# Altium integrated library Xilinx Virtex-II.IntLib: 158 symbols (part 2 of 59)
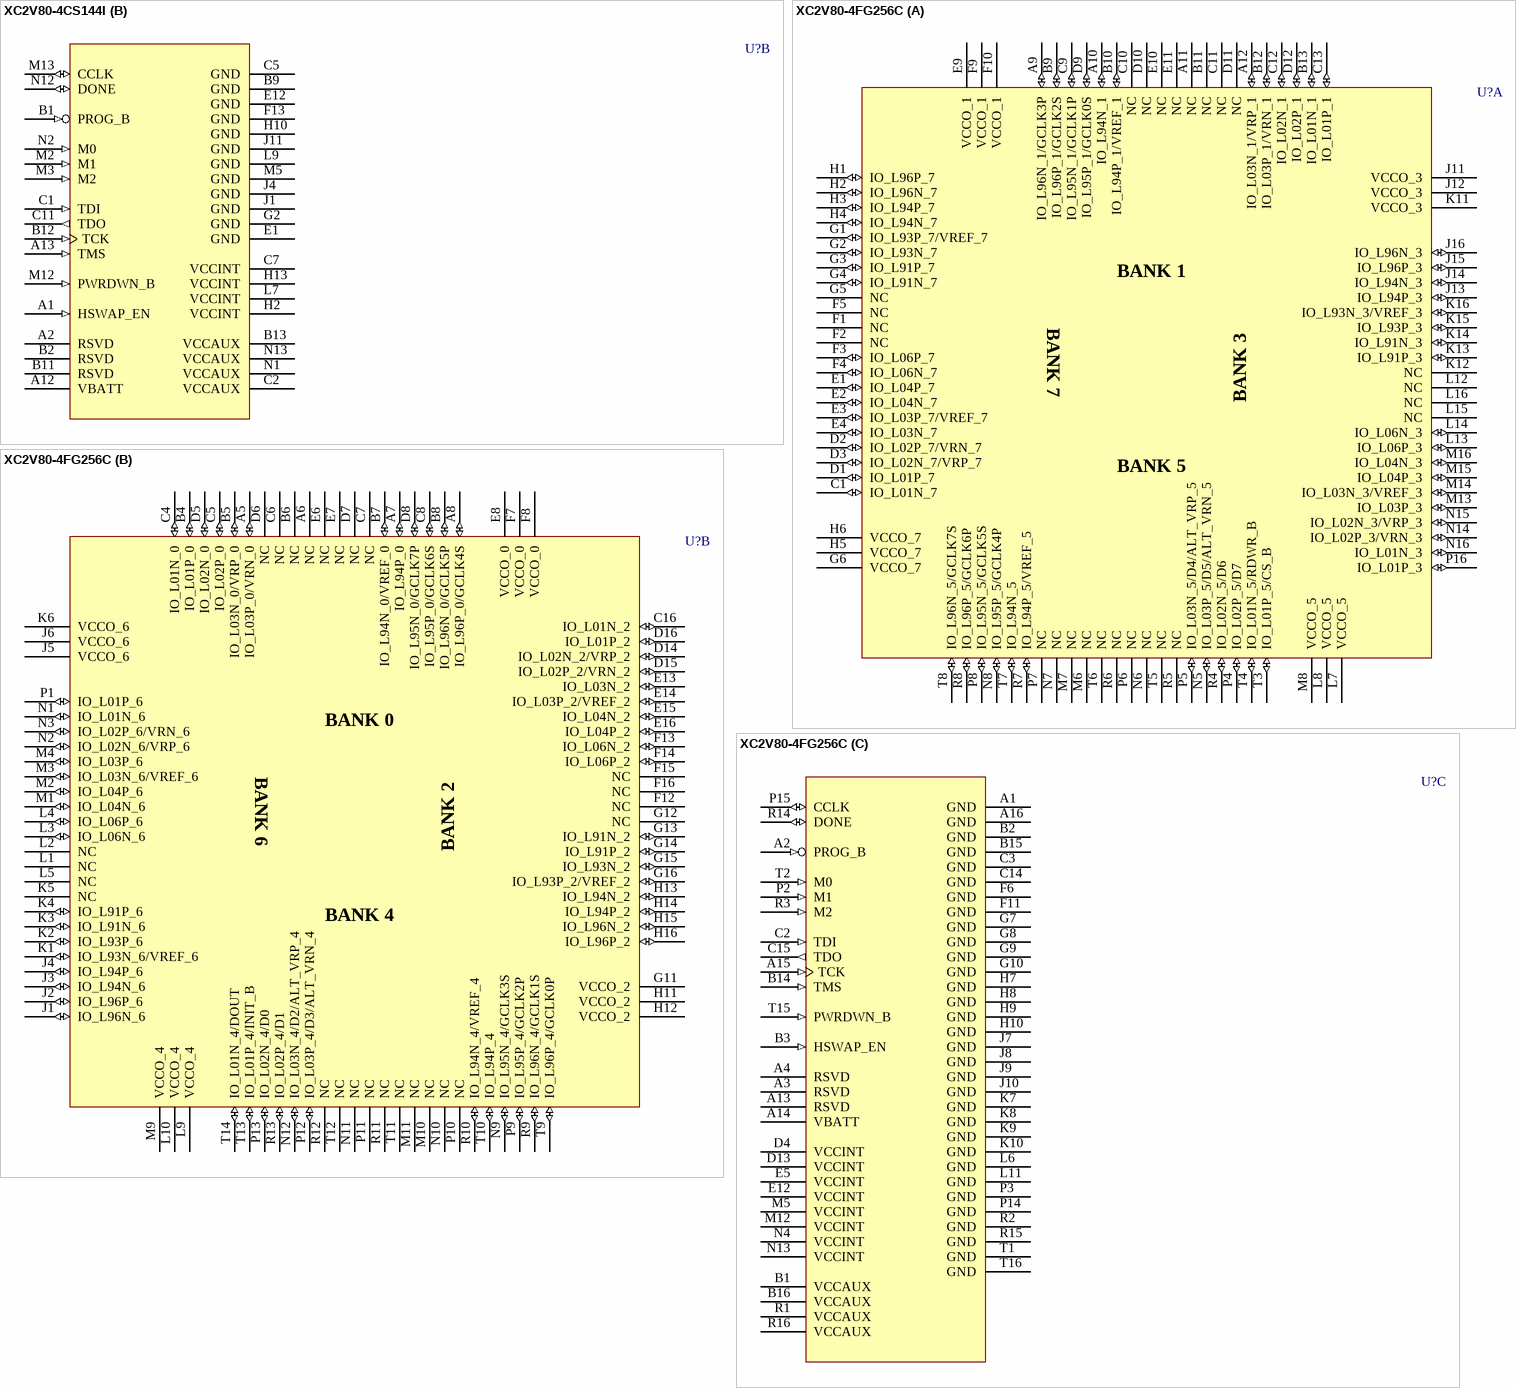
[diagram p400: symbols XC2V80-4CS144I to XC2V80-4FG256C]

## XC2V80-4FG256C
designator U?
Virtex-II 1.5V FPGA, 256-Ball FBGA, Commercial Grade; PackageDocument: ver1.1, Apr-2001; Published: 15-Apr-2002; DatasheetDocument: Mar-2004; PackageReference: FG256; Publisher: Altium Limited; Code_JEDEC: MO-151-AAF-1; Code_IPC: PBGA 17X17 FE256
footprint FG256 (256-Ball Fine Pitch Ball Grid Array (FG256))
3D model XC2V80-FG256 (256-Ball Fine Pitch Ball Grid Array (FG256))
signal-integrity model XC2V80_FG256 (Virtex-II)
part A pins: A9 IO_L96N_1/GCLK3P (io), A10 IO_L94N_1 (io), A11 NC, A12 IO_L03N_1/VRP_1 (io), B9 IO_L96P_1/GCLK2S (io), B10 IO_L94P_1/VREF_1 (io), B11 NC, B12 IO_L03P_1/VRN_1 (io), B13 IO_L01N_1 (io), C1 IO_L01N_7 (io), C9 IO_L95N_1/GCLK1P (io), C10 NC, C11 NC, C12 IO_L02N_1 (io), C13 IO_L01P_1 (io), D1 IO_L01P_7 (io), D2 IO_L02P_7/VRN_7 (io), D3 IO_L02N_7/VRP_7 (io), D9 IO_L95P_1/GCLK0S (io), D10 NC, D11 NC, D12 IO_L02P_1 (io), E1 IO_L04P_7 (io), E2 IO_L04N_7 (io), E3 IO_L03P_7/VREF_7 (io), E4 IO_L03N_7 (io), E9 VCCO_1 (power), E10 NC, E11 NC, F1 NC, F2 NC, F3 IO_L06P_7 (io), F4 IO_L06N_7 (io), F5 NC, F9 VCCO_1 (power), F10 VCCO_1 (power), G1 IO_L93P_7/VREF_7 (io), G2 IO_L93N_7 (io), G3 IO_L91P_7 (io), G4 IO_L91N_7 (io), G5 NC, G6 VCCO_7 (power), H1 IO_L96P_7 (io), H2 IO_L96N_7 (io), H3 IO_L94P_7 (io), H4 IO_L94N_7 (io), H5 VCCO_7 (power), H6 VCCO_7 (power), J11 VCCO_3 (power), J12 VCCO_3 (power), J13 IO_L94P_3 (io), J14 IO_L94N_3 (io), J15 IO_L96P_3 (io), J16 IO_L96N_3 (io), K11 VCCO_3 (power), K12 NC, K13 IO_L91P_3 (io), K14 IO_L91N_3 (io), K15 IO_L93P_3 (io), K16 IO_L93N_3/VREF_3 (io), L7 VCCO_5 (power), L8 VCCO_5 (power), L12 NC, L13 IO_L06P_3 (io), L14 IO_L06N_3 (io), L15 NC, L16 NC, M6 NC, M7 NC, M8 VCCO_5 (power), M13 IO_L03P_3 (io), M14 IO_L03N_3/VREF_3 (io), M15 IO_L04P_3 (io), M16 IO_L04N_3 (io), N5 IO_L03P_5/D5/ALT_VRN_5 (io), N6 NC, N7 NC, N8 IO_L95P_5/GCLK4P (io), N14 IO_L02P_3/VRN_3 (io), N15 IO_L02N_3/VRP_3 (io), N16 IO_L01N_3 (io), P4 IO_L02P_5/D7 (io), P5 IO_L03N_5/D4/ALT_VRP_5 (io), P6 NC, P7 NC, P8 IO_L95N_5/GCLK5S (io), P16 IO_L01P_3 (io), R4 IO_L02N_5/D6 (io), R5 NC, R6 NC, R7 IO_L94P_5/VREF_5 (io), R8 IO_L96P_5/GCLK6P (io), T3 IO_L01P_5/CS_B (io), T4 IO_L01N_5/RDWR_B (io), T5 NC, T6 NC, T7 IO_L94N_5 (io), T8 IO_L96N_5/GCLK7S (io)
part B pins: A5 IO_L03P_0/VRN_0 (io), A6 NC, A7 IO_L94P_0 (io), A8 IO_L96P_0/GCLK4S (io), B4 IO_L01P_0 (io), B5 IO_L03N_0/VRP_0 (io), B6 NC, B7 IO_L94N_0/VREF_0 (io), B8 IO_L96N_0/GCLK5P (io), C4 IO_L01N_0 (io), C5 IO_L02P_0 (io), C6 NC, C7 NC, C8 IO_L95P_0/GCLK6S (io), C16 IO_L01N_2 (io), D5 IO_L02N_0 (io), D6 NC, D7 NC, D8 IO_L95N_0/GCLK7P (io), D14 IO_L02N_2/VRP_2 (io), D15 IO_L02P_2/VRN_2 (io), D16 IO_L01P_2 (io), E6 NC, E7 NC, E8 VCCO_0 (power), E13 IO_L03N_2 (io), E14 IO_L03P_2/VREF_2 (io), E15 IO_L04N_2 (io), E16 IO_L04P_2 (io), F7 VCCO_0 (power), F8 VCCO_0 (power), F12 NC, F13 IO_L06N_2 (io), F14 IO_L06P_2 (io), F15 NC, F16 NC, G11 VCCO_2 (power), G12 NC, G13 IO_L91N_2 (io), G14 IO_L91P_2 (io), G15 IO_L93N_2 (io), G16 IO_L93P_2/VREF_2 (io), H11 VCCO_2 (power), H12 VCCO_2 (power), H13 IO_L94N_2 (io), H14 IO_L94P_2 (io), H15 IO_L96N_2 (io), H16 IO_L96P_2 (io), J1 IO_L96N_6 (io), J2 IO_L96P_6 (io), J3 IO_L94N_6 (io), J4 IO_L94P_6 (io), J5 VCCO_6 (power), J6 VCCO_6 (power), K1 IO_L93N_6/VREF_6 (io), K2 IO_L93P_6 (io), K3 IO_L91N_6 (io), K4 IO_L91P_6 (io), K5 NC, K6 VCCO_6 (power), L1 NC, L2 NC, L3 IO_L06N_6 (io), L4 IO_L06P_6 (io), L5 NC, L9 VCCO_4 (power), L10 VCCO_4 (power), M1 IO_L04N_6 (io), M2 IO_L04P_6 (io), M3 IO_L03N_6/VREF_6 (io), M4 IO_L03P_6 (io), M9 VCCO_4 (power), M10 NC, M11 NC, N1 IO_L01N_6 (io), N2 IO_L02N_6/VRP_6 (io), N3 IO_L02P_6/VRN_6 (io), N9 IO_L95N_4/GCLK3S (io), N10 NC, N11 NC, N12 IO_L03N_4/D2/ALT_VRP_4 (io), P1 IO_L01P_6 (io), P9 IO_L95P_4/GCLK2P (io), P10 NC, P11 NC, P12 IO_L03P_4/D3/ALT_VRN_4 (io), P13 IO_L02N_4/D0 (io), R9 IO_L96N_4/GCLK1S (io), R10 IO_L94N_4/VREF_4 (io), R11 NC, R12 NC, R13 IO_L02P_4/D1 (io), T9 IO_L96P_4/GCLK0P (io), T10 IO_L94P_4 (io), T11 NC, T12 NC, T13 IO_L01P_4/INIT_B (io), T14 IO_L01N_4/DOUT (io)
part C pins: A1 GND (power), A2 PROG_B (in), A3 RSVD, A4 RSVD, A13 RSVD, A14 VBATT (power), A15 TCK (in), A16 GND (power), B1 VCCAUX (power), B2 GND (power), B3 HSWAP_EN (in), B14 TMS (in), B15 GND (power), B16 VCCAUX (power), C2 TDI (in), C3 GND (power), C14 GND (power), C15 TDO (out), D4 VCCINT (power), D13 VCCINT (power), E5 VCCINT (power), E12 VCCINT (power), F6 GND (power), F11 GND (power), G7 GND (power), G8 GND (power), G9 GND (power), G10 GND (power), H7 GND (power), H8 GND (power), H9 GND (power), H10 GND (power), J7 GND (power), J8 GND (power), J9 GND (power), J10 GND (power), K7 GND (power), K8 GND (power), K9 GND (power), K10 GND (power), L6 GND (power), L11 GND (power), M5 VCCINT (power), M12 VCCINT (power), N4 VCCINT (power), N13 VCCINT (power), P2 M1 (in), P3 GND (power), P14 GND (power), P15 CCLK (io), R1 VCCAUX (power), R2 GND (power), R3 M2 (in), R14 DONE (io), R15 GND (power), R16 VCCAUX (power), T1 GND (power), T2 M0 (in), T15 PWRDWN_B (in), T16 GND (power)
part A text: BANK 1; BANK 7; BANK 3; BANK 5
part B text: BANK 0; BANK 6; BANK 2; BANK 4

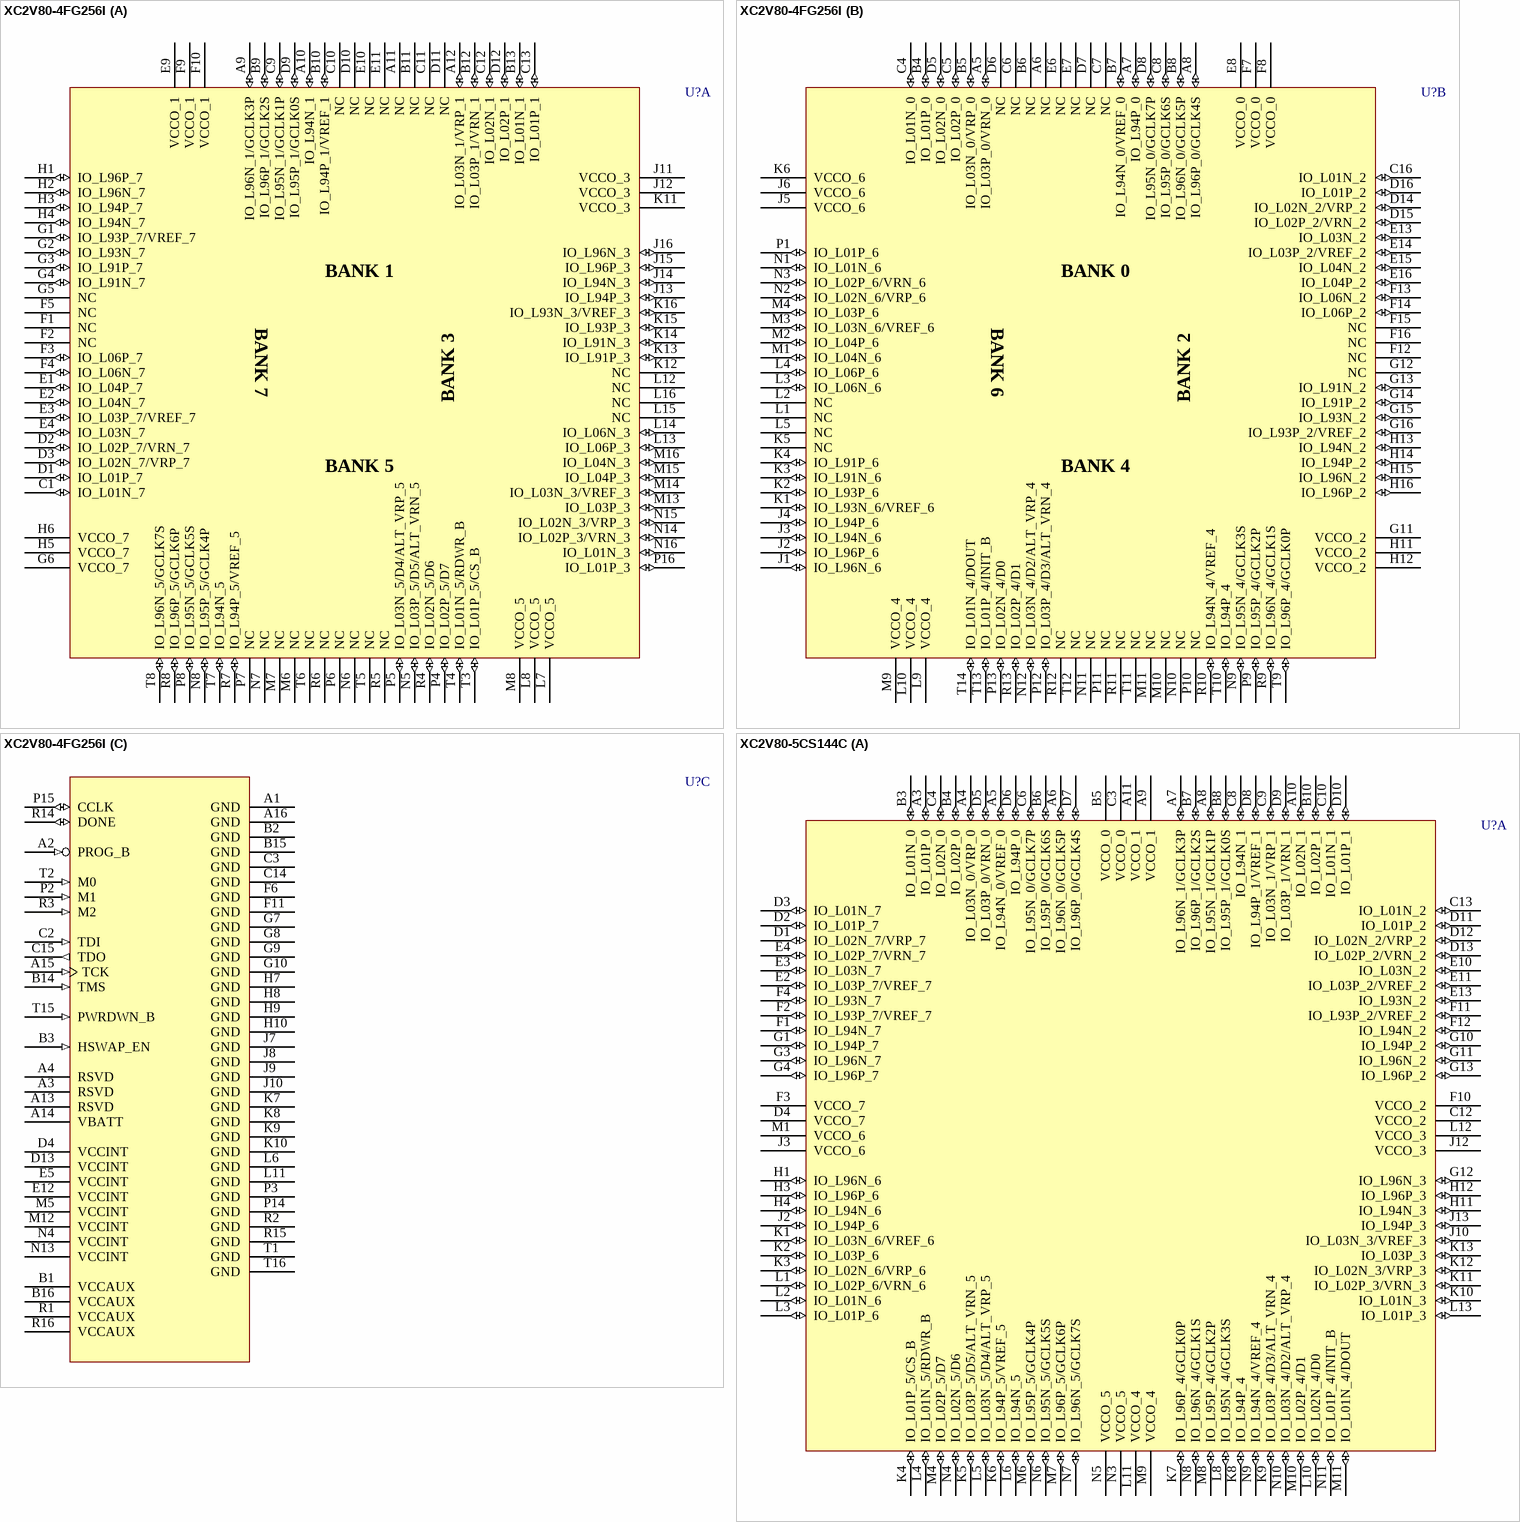
[diagram p8: symbols XC2V80-4FG256I to XC2V80-5CS144C]

## XC2V80-4FG256I
designator U?
Virtex-II 1.5V FPGA, 256-Ball FBGA, Industrial Grade; PackageDocument: ver1.1, Apr-2001; Published: 15-Apr-2002; DatasheetDocument: Mar-2004; PackageReference: FG256; Publisher: Altium Limited; Code_JEDEC: MO-151-AAF-1; Code_IPC: PBGA 17X17 FE256
footprint FG256 (256-Ball Fine Pitch Ball Grid Array (FG256))
3D model XC2V80-FG256 (256-Ball Fine Pitch Ball Grid Array (FG256))
signal-integrity model XC2V80_FG256 (Virtex-II)
part A pins: A9 IO_L96N_1/GCLK3P (io), A10 IO_L94N_1 (io), A11 NC, A12 IO_L03N_1/VRP_1 (io), B9 IO_L96P_1/GCLK2S (io), B10 IO_L94P_1/VREF_1 (io), B11 NC, B12 IO_L03P_1/VRN_1 (io), B13 IO_L01N_1 (io), C1 IO_L01N_7 (io), C9 IO_L95N_1/GCLK1P (io), C10 NC, C11 NC, C12 IO_L02N_1 (io), C13 IO_L01P_1 (io), D1 IO_L01P_7 (io), D2 IO_L02P_7/VRN_7 (io), D3 IO_L02N_7/VRP_7 (io), D9 IO_L95P_1/GCLK0S (io), D10 NC, D11 NC, D12 IO_L02P_1 (io), E1 IO_L04P_7 (io), E2 IO_L04N_7 (io), E3 IO_L03P_7/VREF_7 (io), E4 IO_L03N_7 (io), E9 VCCO_1 (power), E10 NC, E11 NC, F1 NC, F2 NC, F3 IO_L06P_7 (io), F4 IO_L06N_7 (io), F5 NC, F9 VCCO_1 (power), F10 VCCO_1 (power), G1 IO_L93P_7/VREF_7 (io), G2 IO_L93N_7 (io), G3 IO_L91P_7 (io), G4 IO_L91N_7 (io), G5 NC, G6 VCCO_7 (power), H1 IO_L96P_7 (io), H2 IO_L96N_7 (io), H3 IO_L94P_7 (io), H4 IO_L94N_7 (io), H5 VCCO_7 (power), H6 VCCO_7 (power), J11 VCCO_3 (power), J12 VCCO_3 (power), J13 IO_L94P_3 (io), J14 IO_L94N_3 (io), J15 IO_L96P_3 (io), J16 IO_L96N_3 (io), K11 VCCO_3 (power), K12 NC, K13 IO_L91P_3 (io), K14 IO_L91N_3 (io), K15 IO_L93P_3 (io), K16 IO_L93N_3/VREF_3 (io), L7 VCCO_5 (power), L8 VCCO_5 (power), L12 NC, L13 IO_L06P_3 (io), L14 IO_L06N_3 (io), L15 NC, L16 NC, M6 NC, M7 NC, M8 VCCO_5 (power), M13 IO_L03P_3 (io), M14 IO_L03N_3/VREF_3 (io), M15 IO_L04P_3 (io), M16 IO_L04N_3 (io), N5 IO_L03P_5/D5/ALT_VRN_5 (io), N6 NC, N7 NC, N8 IO_L95P_5/GCLK4P (io), N14 IO_L02P_3/VRN_3 (io), N15 IO_L02N_3/VRP_3 (io), N16 IO_L01N_3 (io), P4 IO_L02P_5/D7 (io), P5 IO_L03N_5/D4/ALT_VRP_5 (io), P6 NC, P7 NC, P8 IO_L95N_5/GCLK5S (io), P16 IO_L01P_3 (io), R4 IO_L02N_5/D6 (io), R5 NC, R6 NC, R7 IO_L94P_5/VREF_5 (io), R8 IO_L96P_5/GCLK6P (io), T3 IO_L01P_5/CS_B (io), T4 IO_L01N_5/RDWR_B (io), T5 NC, T6 NC, T7 IO_L94N_5 (io), T8 IO_L96N_5/GCLK7S (io)
part B pins: A5 IO_L03P_0/VRN_0 (io), A6 NC, A7 IO_L94P_0 (io), A8 IO_L96P_0/GCLK4S (io), B4 IO_L01P_0 (io), B5 IO_L03N_0/VRP_0 (io), B6 NC, B7 IO_L94N_0/VREF_0 (io), B8 IO_L96N_0/GCLK5P (io), C4 IO_L01N_0 (io), C5 IO_L02P_0 (io), C6 NC, C7 NC, C8 IO_L95P_0/GCLK6S (io), C16 IO_L01N_2 (io), D5 IO_L02N_0 (io), D6 NC, D7 NC, D8 IO_L95N_0/GCLK7P (io), D14 IO_L02N_2/VRP_2 (io), D15 IO_L02P_2/VRN_2 (io), D16 IO_L01P_2 (io), E6 NC, E7 NC, E8 VCCO_0 (power), E13 IO_L03N_2 (io), E14 IO_L03P_2/VREF_2 (io), E15 IO_L04N_2 (io), E16 IO_L04P_2 (io), F7 VCCO_0 (power), F8 VCCO_0 (power), F12 NC, F13 IO_L06N_2 (io), F14 IO_L06P_2 (io), F15 NC, F16 NC, G11 VCCO_2 (power), G12 NC, G13 IO_L91N_2 (io), G14 IO_L91P_2 (io), G15 IO_L93N_2 (io), G16 IO_L93P_2/VREF_2 (io), H11 VCCO_2 (power), H12 VCCO_2 (power), H13 IO_L94N_2 (io), H14 IO_L94P_2 (io), H15 IO_L96N_2 (io), H16 IO_L96P_2 (io), J1 IO_L96N_6 (io), J2 IO_L96P_6 (io), J3 IO_L94N_6 (io), J4 IO_L94P_6 (io), J5 VCCO_6 (power), J6 VCCO_6 (power), K1 IO_L93N_6/VREF_6 (io), K2 IO_L93P_6 (io), K3 IO_L91N_6 (io), K4 IO_L91P_6 (io), K5 NC, K6 VCCO_6 (power), L1 NC, L2 NC, L3 IO_L06N_6 (io), L4 IO_L06P_6 (io), L5 NC, L9 VCCO_4 (power), L10 VCCO_4 (power), M1 IO_L04N_6 (io), M2 IO_L04P_6 (io), M3 IO_L03N_6/VREF_6 (io), M4 IO_L03P_6 (io), M9 VCCO_4 (power), M10 NC, M11 NC, N1 IO_L01N_6 (io), N2 IO_L02N_6/VRP_6 (io), N3 IO_L02P_6/VRN_6 (io), N9 IO_L95N_4/GCLK3S (io), N10 NC, N11 NC, N12 IO_L03N_4/D2/ALT_VRP_4 (io), P1 IO_L01P_6 (io), P9 IO_L95P_4/GCLK2P (io), P10 NC, P11 NC, P12 IO_L03P_4/D3/ALT_VRN_4 (io), P13 IO_L02N_4/D0 (io), R9 IO_L96N_4/GCLK1S (io), R10 IO_L94N_4/VREF_4 (io), R11 NC, R12 NC, R13 IO_L02P_4/D1 (io), T9 IO_L96P_4/GCLK0P (io), T10 IO_L94P_4 (io), T11 NC, T12 NC, T13 IO_L01P_4/INIT_B (io), T14 IO_L01N_4/DOUT (io)
part C pins: A1 GND (power), A2 PROG_B (in), A3 RSVD, A4 RSVD, A13 RSVD, A14 VBATT (power), A15 TCK (in), A16 GND (power), B1 VCCAUX (power), B2 GND (power), B3 HSWAP_EN (in), B14 TMS (in), B15 GND (power), B16 VCCAUX (power), C2 TDI (in), C3 GND (power), C14 GND (power), C15 TDO (out), D4 VCCINT (power), D13 VCCINT (power), E5 VCCINT (power), E12 VCCINT (power), F6 GND (power), F11 GND (power), G7 GND (power), G8 GND (power), G9 GND (power), G10 GND (power), H7 GND (power), H8 GND (power), H9 GND (power), H10 GND (power), J7 GND (power), J8 GND (power), J9 GND (power), J10 GND (power), K7 GND (power), K8 GND (power), K9 GND (power), K10 GND (power), L6 GND (power), L11 GND (power), M5 VCCINT (power), M12 VCCINT (power), N4 VCCINT (power), N13 VCCINT (power), P2 M1 (in), P3 GND (power), P14 GND (power), P15 CCLK (io), R1 VCCAUX (power), R2 GND (power), R3 M2 (in), R14 DONE (io), R15 GND (power), R16 VCCAUX (power), T1 GND (power), T2 M0 (in), T15 PWRDWN_B (in), T16 GND (power)
part A text: BANK 1; BANK 7; BANK 3; BANK 5
part B text: BANK 0; BANK 6; BANK 2; BANK 4

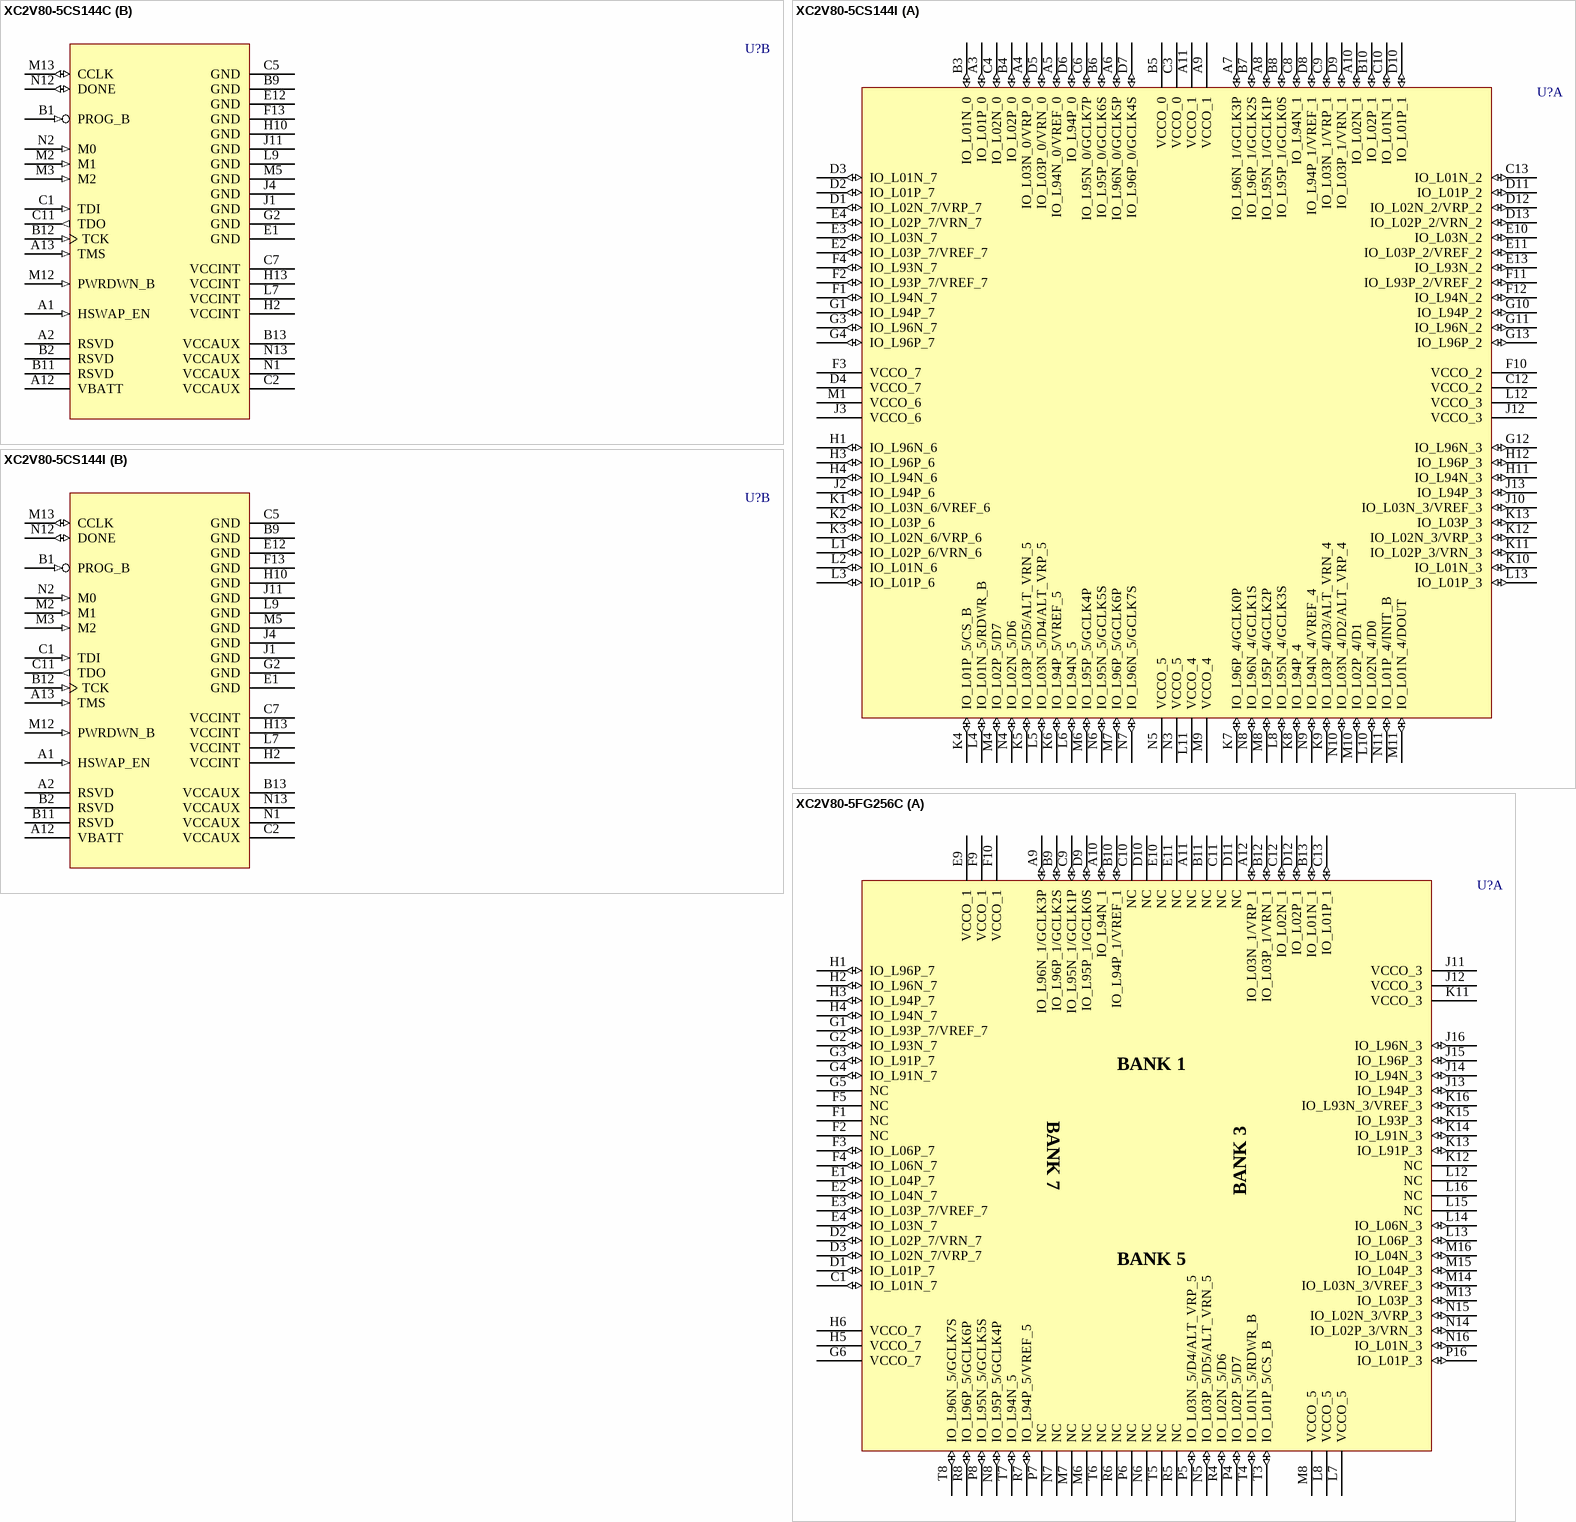
[diagram p9: symbols XC2V80-5CS144C to XC2V80-5FG256C]

## XC2V80-5CS144C
designator U?
Virtex-II 1.5V FPGA, 144-Ball CSBGA, Commercial Grade; PackageDocument: ver1.0, Jun-2000; Published: 15-Apr-2002; LatestRevisionDate: 17-Sep-2003; LatestRevisionNote: PCB Footprint dimensions updated; DatasheetDocument: Mar-2004; PackageReference: CS144; Publisher: Altium Limited
footprint CS144 (144-Ball Chip Scale Ball Grid Array (CS144))
3D model XC2V80-CS144 (144-Ball Chip Scale Ball Grid Array (CS144))
signal-integrity model XC2V80_CS144 (Virtex-II)
part A pins: A3 IO_L01P_0 (io), A4 IO_L03N_0/VRP_0 (io), A5 IO_L94N_0/VREF_0 (io), A6 IO_L96N_0/GCLK5P (io), A7 IO_L96N_1/GCLK3P (io), A8 IO_L95N_1/GCLK1P (io), A9 VCCO_1 (power), A10 IO_L02N_1 (io), A11 VCCO_1 (power), B3 IO_L01N_0 (io), B4 IO_L02P_0 (io), B5 VCCO_0 (power), B6 IO_L95P_0/GCLK6S (io), B7 IO_L96P_1/GCLK2S (io), B8 IO_L95P_1/GCLK0S (io), B10 IO_L02P_1 (io), C3 VCCO_0 (power), C4 IO_L02N_0 (io), C6 IO_L95N_0/GCLK7P (io), C8 IO_L94N_1 (io), C9 IO_L03N_1/VRP_1 (io), C10 IO_L01N_1 (io), C12 VCCO_2 (power), C13 IO_L01N_2 (io), D1 IO_L02N_7/VRP_7 (io), D2 IO_L01P_7 (io), D3 IO_L01N_7 (io), D4 VCCO_7 (power), D5 IO_L03P_0/VRN_0 (io), D6 IO_L94P_0 (io), D7 IO_L96P_0/GCLK4S (io), D8 IO_L94P_1/VREF_1 (io), D9 IO_L03P_1/VRN_1 (io), D10 IO_L01P_1 (io), D11 IO_L01P_2 (io), D12 IO_L02N_2/VRP_2 (io), D13 IO_L02P_2/VRN_2 (io), E2 IO_L03P_7/VREF_7 (io), E3 IO_L03N_7 (io), E4 IO_L02P_7/VRN_7 (io), E10 IO_L03N_2 (io), E11 IO_L03P_2/VREF_2 (io), E13 IO_L93N_2 (io), F1 IO_L94N_7 (io), F2 IO_L93P_7/VREF_7 (io), F3 VCCO_7 (power), F4 IO_L93N_7 (io), F10 VCCO_2 (power), F11 IO_L93P_2/VREF_2 (io), F12 IO_L94N_2 (io), G1 IO_L94P_7 (io), G3 IO_L96N_7 (io), G4 IO_L96P_7 (io), G10 IO_L94P_2 (io), G11 IO_L96N_2 (io), G12 IO_L96N_3 (io), G13 IO_L96P_2 (io), H1 IO_L96N_6 (io), H3 IO_L96P_6 (io), H4 IO_L94N_6 (io), H11 IO_L94N_3 (io), H12 IO_L96P_3 (io), J2 IO_L94P_6 (io), J3 VCCO_6 (power), J10 IO_L03N_3/VREF_3 (io), J12 VCCO_3 (power), J13 IO_L94P_3 (io), K1 IO_L03N_6/VREF_6 (io), K2 IO_L03P_6 (io), K3 IO_L02N_6/VRP_6 (io), K4 IO_L01P_5/CS_B (io), K5 IO_L03P_5/D5/ALT_VRN_5 (io), K6 IO_L94P_5/VREF_5 (io), K7 IO_L96P_4/GCLK0P (io), K8 IO_L94P_4 (io), K9 IO_L03P_4/D3/ALT_VRN_4 (io), K10 IO_L01N_3 (io), K11 IO_L02P_3/VRN_3 (io), K12 IO_L02N_3/VRP_3 (io), K13 IO_L03P_3 (io), L1 IO_L02P_6/VRN_6 (io), L2 IO_L01N_6 (io), L3 IO_L01P_6 (io), L4 IO_L01N_5/RDWR_B (io), L5 IO_L03N_5/D4/ALT_VRP_5 (io), L6 IO_L94N_5 (io), L8 IO_L95N_4/GCLK3S (io), L10 IO_L02N_4/D0 (io), L11 VCCO_4 (power), L12 VCCO_3 (power), L13 IO_L01P_3 (io), M1 VCCO_6 (power), M4 IO_L02P_5/D7 (io), M6 IO_L95P_5/GCLK4P (io), M7 IO_L96P_5/GCLK6P (io), M8 IO_L95P_4/GCLK2P (io), M9 VCCO_4 (power), M10 IO_L02P_4/D1 (io), M11 IO_L01N_4/DOUT (io), N3 VCCO_5 (power), N4 IO_L02N_5/D6 (io), N5 VCCO_5 (power), N6 IO_L95N_5/GCLK5S (io), N7 IO_L96N_5/GCLK7S (io), N8 IO_L96N_4/GCLK1S (io), N9 IO_L94N_4/VREF_4 (io), N10 IO_L03N_4/D2/ALT_VRP_4 (io), N11 IO_L01P_4/INIT_B (io)
part B pins: A1 HSWAP_EN (in), A2 RSVD, A12 VBATT (power), A13 TMS (in), B1 PROG_B (in), B2 RSVD, B9 GND (power), B11 RSVD, B12 TCK (in), B13 VCCAUX (power), C1 TDI (in), C2 VCCAUX (power), C5 GND (power), C7 VCCINT (power), C11 TDO (out), E1 GND (power), E12 GND (power), F13 GND (power), G2 GND (power), H2 VCCINT (power), H10 GND (power), H13 VCCINT (power), J1 GND (power), J4 GND (power), J11 GND (power), L7 VCCINT (power), L9 GND (power), M2 M1 (in), M3 M2 (in), M5 GND (power), M12 PWRDWN_B (in), M13 CCLK (io), N1 VCCAUX (power), N2 M0 (in), N12 DONE (io), N13 VCCAUX (power)

## XC2V80-5CS144I
designator U?
Virtex-II 1.5V FPGA, 144-Ball CSBGA, Industrial Grade; PackageDocument: ver1.0, Jun-2000; Published: 15-Apr-2002; LatestRevisionDate: 17-Sep-2003; LatestRevisionNote: PCB Footprint dimensions updated; DatasheetDocument: Mar-2004; PackageReference: CS144; Publisher: Altium Limited
footprint CS144 (144-Ball Chip Scale Ball Grid Array (CS144))
3D model XC2V80-CS144 (144-Ball Chip Scale Ball Grid Array (CS144))
signal-integrity model XC2V80_CS144 (Virtex-II)
part A pins: A3 IO_L01P_0 (io), A4 IO_L03N_0/VRP_0 (io), A5 IO_L94N_0/VREF_0 (io), A6 IO_L96N_0/GCLK5P (io), A7 IO_L96N_1/GCLK3P (io), A8 IO_L95N_1/GCLK1P (io), A9 VCCO_1 (power), A10 IO_L02N_1 (io), A11 VCCO_1 (power), B3 IO_L01N_0 (io), B4 IO_L02P_0 (io), B5 VCCO_0 (power), B6 IO_L95P_0/GCLK6S (io), B7 IO_L96P_1/GCLK2S (io), B8 IO_L95P_1/GCLK0S (io), B10 IO_L02P_1 (io), C3 VCCO_0 (power), C4 IO_L02N_0 (io), C6 IO_L95N_0/GCLK7P (io), C8 IO_L94N_1 (io), C9 IO_L03N_1/VRP_1 (io), C10 IO_L01N_1 (io), C12 VCCO_2 (power), C13 IO_L01N_2 (io), D1 IO_L02N_7/VRP_7 (io), D2 IO_L01P_7 (io), D3 IO_L01N_7 (io), D4 VCCO_7 (power), D5 IO_L03P_0/VRN_0 (io), D6 IO_L94P_0 (io), D7 IO_L96P_0/GCLK4S (io), D8 IO_L94P_1/VREF_1 (io), D9 IO_L03P_1/VRN_1 (io), D10 IO_L01P_1 (io), D11 IO_L01P_2 (io), D12 IO_L02N_2/VRP_2 (io), D13 IO_L02P_2/VRN_2 (io), E2 IO_L03P_7/VREF_7 (io), E3 IO_L03N_7 (io), E4 IO_L02P_7/VRN_7 (io), E10 IO_L03N_2 (io), E11 IO_L03P_2/VREF_2 (io), E13 IO_L93N_2 (io), F1 IO_L94N_7 (io), F2 IO_L93P_7/VREF_7 (io), F3 VCCO_7 (power), F4 IO_L93N_7 (io), F10 VCCO_2 (power), F11 IO_L93P_2/VREF_2 (io), F12 IO_L94N_2 (io), G1 IO_L94P_7 (io), G3 IO_L96N_7 (io), G4 IO_L96P_7 (io), G10 IO_L94P_2 (io), G11 IO_L96N_2 (io), G12 IO_L96N_3 (io), G13 IO_L96P_2 (io), H1 IO_L96N_6 (io), H3 IO_L96P_6 (io), H4 IO_L94N_6 (io), H11 IO_L94N_3 (io), H12 IO_L96P_3 (io), J2 IO_L94P_6 (io), J3 VCCO_6 (power), J10 IO_L03N_3/VREF_3 (io), J12 VCCO_3 (power), J13 IO_L94P_3 (io), K1 IO_L03N_6/VREF_6 (io), K2 IO_L03P_6 (io), K3 IO_L02N_6/VRP_6 (io), K4 IO_L01P_5/CS_B (io), K5 IO_L03P_5/D5/ALT_VRN_5 (io), K6 IO_L94P_5/VREF_5 (io), K7 IO_L96P_4/GCLK0P (io), K8 IO_L94P_4 (io), K9 IO_L03P_4/D3/ALT_VRN_4 (io), K10 IO_L01N_3 (io), K11 IO_L02P_3/VRN_3 (io), K12 IO_L02N_3/VRP_3 (io), K13 IO_L03P_3 (io), L1 IO_L02P_6/VRN_6 (io), L2 IO_L01N_6 (io), L3 IO_L01P_6 (io), L4 IO_L01N_5/RDWR_B (io), L5 IO_L03N_5/D4/ALT_VRP_5 (io), L6 IO_L94N_5 (io), L8 IO_L95N_4/GCLK3S (io), L10 IO_L02N_4/D0 (io), L11 VCCO_4 (power), L12 VCCO_3 (power), L13 IO_L01P_3 (io), M1 VCCO_6 (power), M4 IO_L02P_5/D7 (io), M6 IO_L95P_5/GCLK4P (io), M7 IO_L96P_5/GCLK6P (io), M8 IO_L95P_4/GCLK2P (io), M9 VCCO_4 (power), M10 IO_L02P_4/D1 (io), M11 IO_L01N_4/DOUT (io), N3 VCCO_5 (power), N4 IO_L02N_5/D6 (io), N5 VCCO_5 (power), N6 IO_L95N_5/GCLK5S (io), N7 IO_L96N_5/GCLK7S (io), N8 IO_L96N_4/GCLK1S (io), N9 IO_L94N_4/VREF_4 (io), N10 IO_L03N_4/D2/ALT_VRP_4 (io), N11 IO_L01P_4/INIT_B (io)
part B pins: A1 HSWAP_EN (in), A2 RSVD, A12 VBATT (power), A13 TMS (in), B1 PROG_B (in), B2 RSVD, B9 GND (power), B11 RSVD, B12 TCK (in), B13 VCCAUX (power), C1 TDI (in), C2 VCCAUX (power), C5 GND (power), C7 VCCINT (power), C11 TDO (out), E1 GND (power), E12 GND (power), F13 GND (power), G2 GND (power), H2 VCCINT (power), H10 GND (power), H13 VCCINT (power), J1 GND (power), J4 GND (power), J11 GND (power), L7 VCCINT (power), L9 GND (power), M2 M1 (in), M3 M2 (in), M5 GND (power), M12 PWRDWN_B (in), M13 CCLK (io), N1 VCCAUX (power), N2 M0 (in), N12 DONE (io), N13 VCCAUX (power)

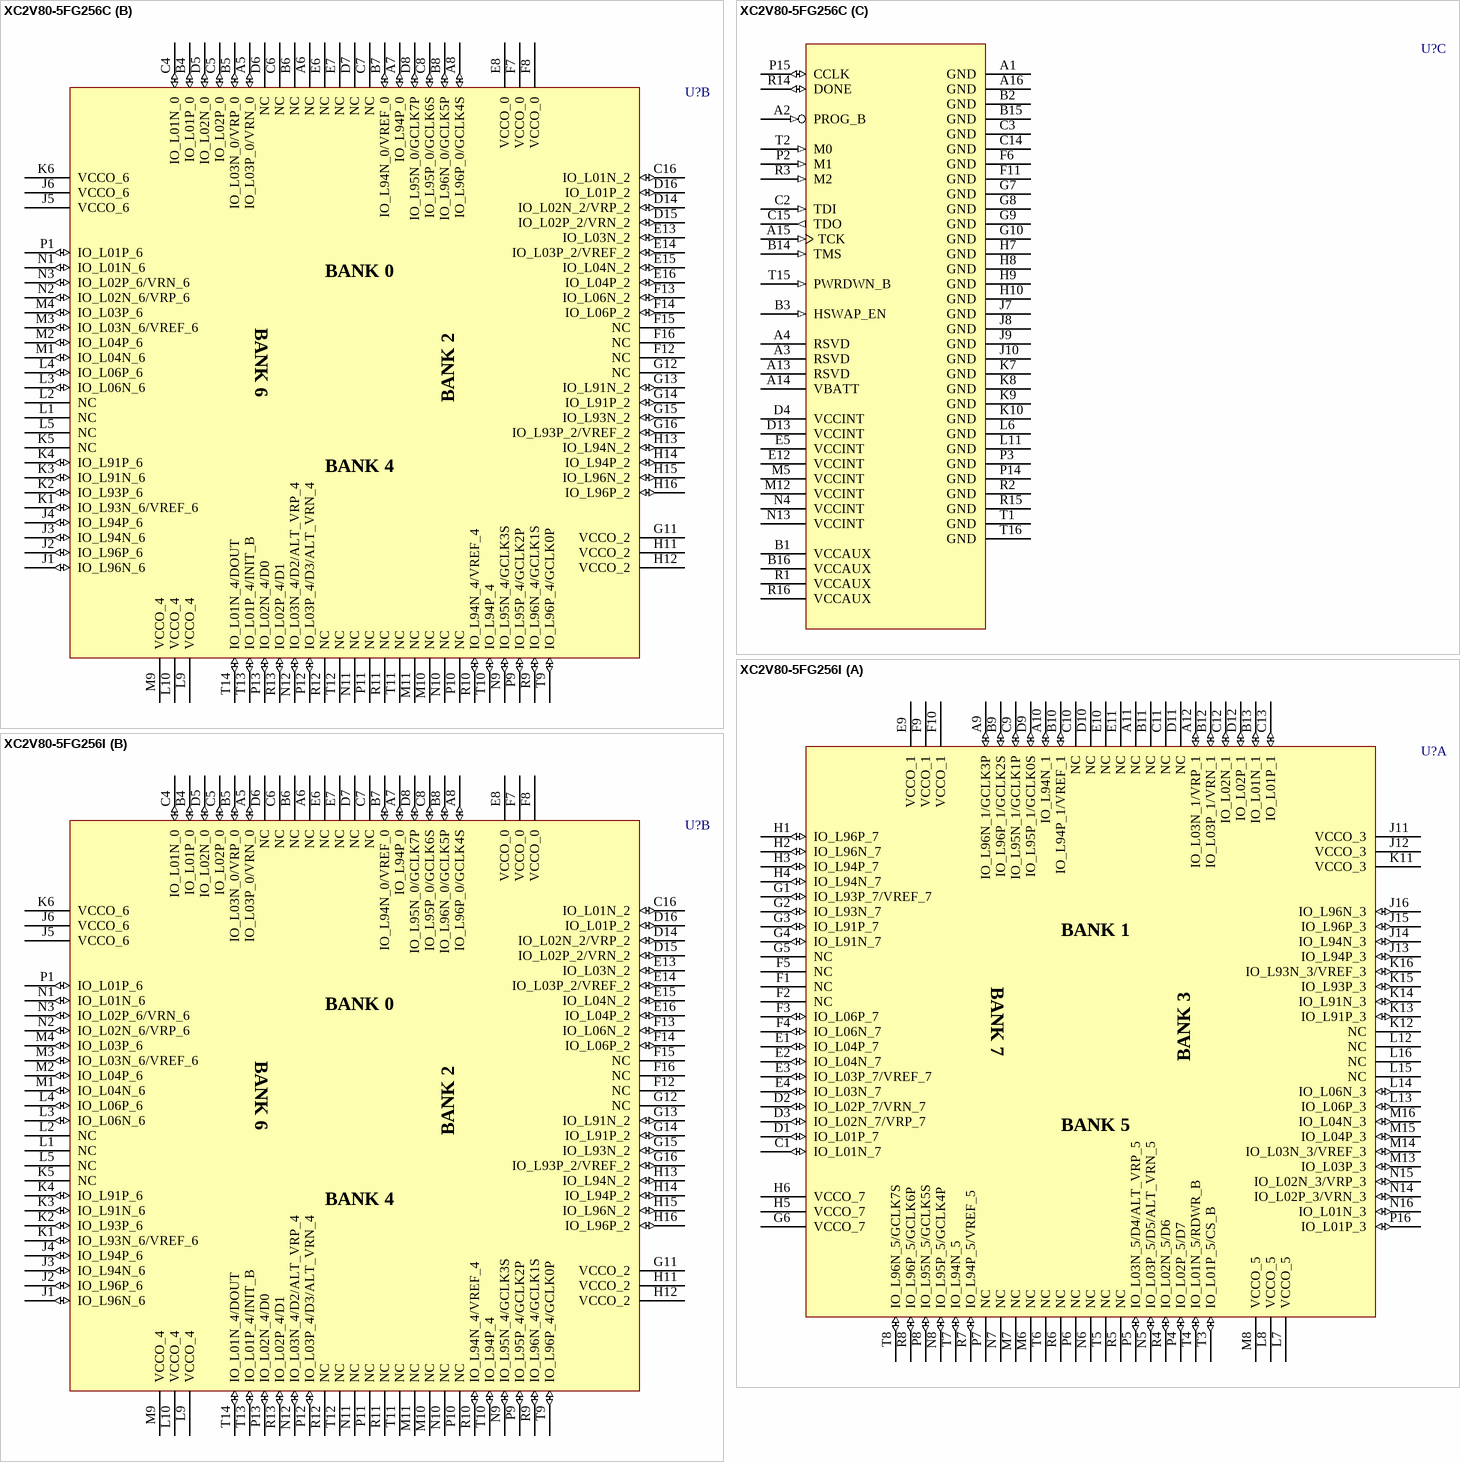
[diagram p10: symbols XC2V80-5FG256C to XC2V80-5FG256I]

## XC2V80-5FG256C
designator U?
Virtex-II 1.5V FPGA, 256-Ball FBGA, Commercial Grade; PackageDocument: ver1.1, Apr-2001; Published: 15-Apr-2002; DatasheetDocument: Mar-2004; PackageReference: FG256; Publisher: Altium Limited; Code_JEDEC: MO-151-AAF-1; Code_IPC: PBGA 17X17 FE256
footprint FG256 (256-Ball Fine Pitch Ball Grid Array (FG256))
3D model XC2V80-FG256 (256-Ball Fine Pitch Ball Grid Array (FG256))
signal-integrity model XC2V80_FG256 (Virtex-II)
part A pins: A9 IO_L96N_1/GCLK3P (io), A10 IO_L94N_1 (io), A11 NC, A12 IO_L03N_1/VRP_1 (io), B9 IO_L96P_1/GCLK2S (io), B10 IO_L94P_1/VREF_1 (io), B11 NC, B12 IO_L03P_1/VRN_1 (io), B13 IO_L01N_1 (io), C1 IO_L01N_7 (io), C9 IO_L95N_1/GCLK1P (io), C10 NC, C11 NC, C12 IO_L02N_1 (io), C13 IO_L01P_1 (io), D1 IO_L01P_7 (io), D2 IO_L02P_7/VRN_7 (io), D3 IO_L02N_7/VRP_7 (io), D9 IO_L95P_1/GCLK0S (io), D10 NC, D11 NC, D12 IO_L02P_1 (io), E1 IO_L04P_7 (io), E2 IO_L04N_7 (io), E3 IO_L03P_7/VREF_7 (io), E4 IO_L03N_7 (io), E9 VCCO_1 (power), E10 NC, E11 NC, F1 NC, F2 NC, F3 IO_L06P_7 (io), F4 IO_L06N_7 (io), F5 NC, F9 VCCO_1 (power), F10 VCCO_1 (power), G1 IO_L93P_7/VREF_7 (io), G2 IO_L93N_7 (io), G3 IO_L91P_7 (io), G4 IO_L91N_7 (io), G5 NC, G6 VCCO_7 (power), H1 IO_L96P_7 (io), H2 IO_L96N_7 (io), H3 IO_L94P_7 (io), H4 IO_L94N_7 (io), H5 VCCO_7 (power), H6 VCCO_7 (power), J11 VCCO_3 (power), J12 VCCO_3 (power), J13 IO_L94P_3 (io), J14 IO_L94N_3 (io), J15 IO_L96P_3 (io), J16 IO_L96N_3 (io), K11 VCCO_3 (power), K12 NC, K13 IO_L91P_3 (io), K14 IO_L91N_3 (io), K15 IO_L93P_3 (io), K16 IO_L93N_3/VREF_3 (io), L7 VCCO_5 (power), L8 VCCO_5 (power), L12 NC, L13 IO_L06P_3 (io), L14 IO_L06N_3 (io), L15 NC, L16 NC, M6 NC, M7 NC, M8 VCCO_5 (power), M13 IO_L03P_3 (io), M14 IO_L03N_3/VREF_3 (io), M15 IO_L04P_3 (io), M16 IO_L04N_3 (io), N5 IO_L03P_5/D5/ALT_VRN_5 (io), N6 NC, N7 NC, N8 IO_L95P_5/GCLK4P (io), N14 IO_L02P_3/VRN_3 (io), N15 IO_L02N_3/VRP_3 (io), N16 IO_L01N_3 (io), P4 IO_L02P_5/D7 (io), P5 IO_L03N_5/D4/ALT_VRP_5 (io), P6 NC, P7 NC, P8 IO_L95N_5/GCLK5S (io), P16 IO_L01P_3 (io), R4 IO_L02N_5/D6 (io), R5 NC, R6 NC, R7 IO_L94P_5/VREF_5 (io), R8 IO_L96P_5/GCLK6P (io), T3 IO_L01P_5/CS_B (io), T4 IO_L01N_5/RDWR_B (io), T5 NC, T6 NC, T7 IO_L94N_5 (io), T8 IO_L96N_5/GCLK7S (io)
part B pins: A5 IO_L03P_0/VRN_0 (io), A6 NC, A7 IO_L94P_0 (io), A8 IO_L96P_0/GCLK4S (io), B4 IO_L01P_0 (io), B5 IO_L03N_0/VRP_0 (io), B6 NC, B7 IO_L94N_0/VREF_0 (io), B8 IO_L96N_0/GCLK5P (io), C4 IO_L01N_0 (io), C5 IO_L02P_0 (io), C6 NC, C7 NC, C8 IO_L95P_0/GCLK6S (io), C16 IO_L01N_2 (io), D5 IO_L02N_0 (io), D6 NC, D7 NC, D8 IO_L95N_0/GCLK7P (io), D14 IO_L02N_2/VRP_2 (io), D15 IO_L02P_2/VRN_2 (io), D16 IO_L01P_2 (io), E6 NC, E7 NC, E8 VCCO_0 (power), E13 IO_L03N_2 (io), E14 IO_L03P_2/VREF_2 (io), E15 IO_L04N_2 (io), E16 IO_L04P_2 (io), F7 VCCO_0 (power), F8 VCCO_0 (power), F12 NC, F13 IO_L06N_2 (io), F14 IO_L06P_2 (io), F15 NC, F16 NC, G11 VCCO_2 (power), G12 NC, G13 IO_L91N_2 (io), G14 IO_L91P_2 (io), G15 IO_L93N_2 (io), G16 IO_L93P_2/VREF_2 (io), H11 VCCO_2 (power), H12 VCCO_2 (power), H13 IO_L94N_2 (io), H14 IO_L94P_2 (io), H15 IO_L96N_2 (io), H16 IO_L96P_2 (io), J1 IO_L96N_6 (io), J2 IO_L96P_6 (io), J3 IO_L94N_6 (io), J4 IO_L94P_6 (io), J5 VCCO_6 (power), J6 VCCO_6 (power), K1 IO_L93N_6/VREF_6 (io), K2 IO_L93P_6 (io), K3 IO_L91N_6 (io), K4 IO_L91P_6 (io), K5 NC, K6 VCCO_6 (power), L1 NC, L2 NC, L3 IO_L06N_6 (io), L4 IO_L06P_6 (io), L5 NC, L9 VCCO_4 (power), L10 VCCO_4 (power), M1 IO_L04N_6 (io), M2 IO_L04P_6 (io), M3 IO_L03N_6/VREF_6 (io), M4 IO_L03P_6 (io), M9 VCCO_4 (power), M10 NC, M11 NC, N1 IO_L01N_6 (io), N2 IO_L02N_6/VRP_6 (io), N3 IO_L02P_6/VRN_6 (io), N9 IO_L95N_4/GCLK3S (io), N10 NC, N11 NC, N12 IO_L03N_4/D2/ALT_VRP_4 (io), P1 IO_L01P_6 (io), P9 IO_L95P_4/GCLK2P (io), P10 NC, P11 NC, P12 IO_L03P_4/D3/ALT_VRN_4 (io), P13 IO_L02N_4/D0 (io), R9 IO_L96N_4/GCLK1S (io), R10 IO_L94N_4/VREF_4 (io), R11 NC, R12 NC, R13 IO_L02P_4/D1 (io), T9 IO_L96P_4/GCLK0P (io), T10 IO_L94P_4 (io), T11 NC, T12 NC, T13 IO_L01P_4/INIT_B (io), T14 IO_L01N_4/DOUT (io)
part C pins: A1 GND (power), A2 PROG_B (in), A3 RSVD, A4 RSVD, A13 RSVD, A14 VBATT (power), A15 TCK (in), A16 GND (power), B1 VCCAUX (power), B2 GND (power), B3 HSWAP_EN (in), B14 TMS (in), B15 GND (power), B16 VCCAUX (power), C2 TDI (in), C3 GND (power), C14 GND (power), C15 TDO (out), D4 VCCINT (power), D13 VCCINT (power), E5 VCCINT (power), E12 VCCINT (power), F6 GND (power), F11 GND (power), G7 GND (power), G8 GND (power), G9 GND (power), G10 GND (power), H7 GND (power), H8 GND (power), H9 GND (power), H10 GND (power), J7 GND (power), J8 GND (power), J9 GND (power), J10 GND (power), K7 GND (power), K8 GND (power), K9 GND (power), K10 GND (power), L6 GND (power), L11 GND (power), M5 VCCINT (power), M12 VCCINT (power), N4 VCCINT (power), N13 VCCINT (power), P2 M1 (in), P3 GND (power), P14 GND (power), P15 CCLK (io), R1 VCCAUX (power), R2 GND (power), R3 M2 (in), R14 DONE (io), R15 GND (power), R16 VCCAUX (power), T1 GND (power), T2 M0 (in), T15 PWRDWN_B (in), T16 GND (power)
part A text: BANK 1; BANK 7; BANK 3; BANK 5
part B text: BANK 0; BANK 6; BANK 2; BANK 4

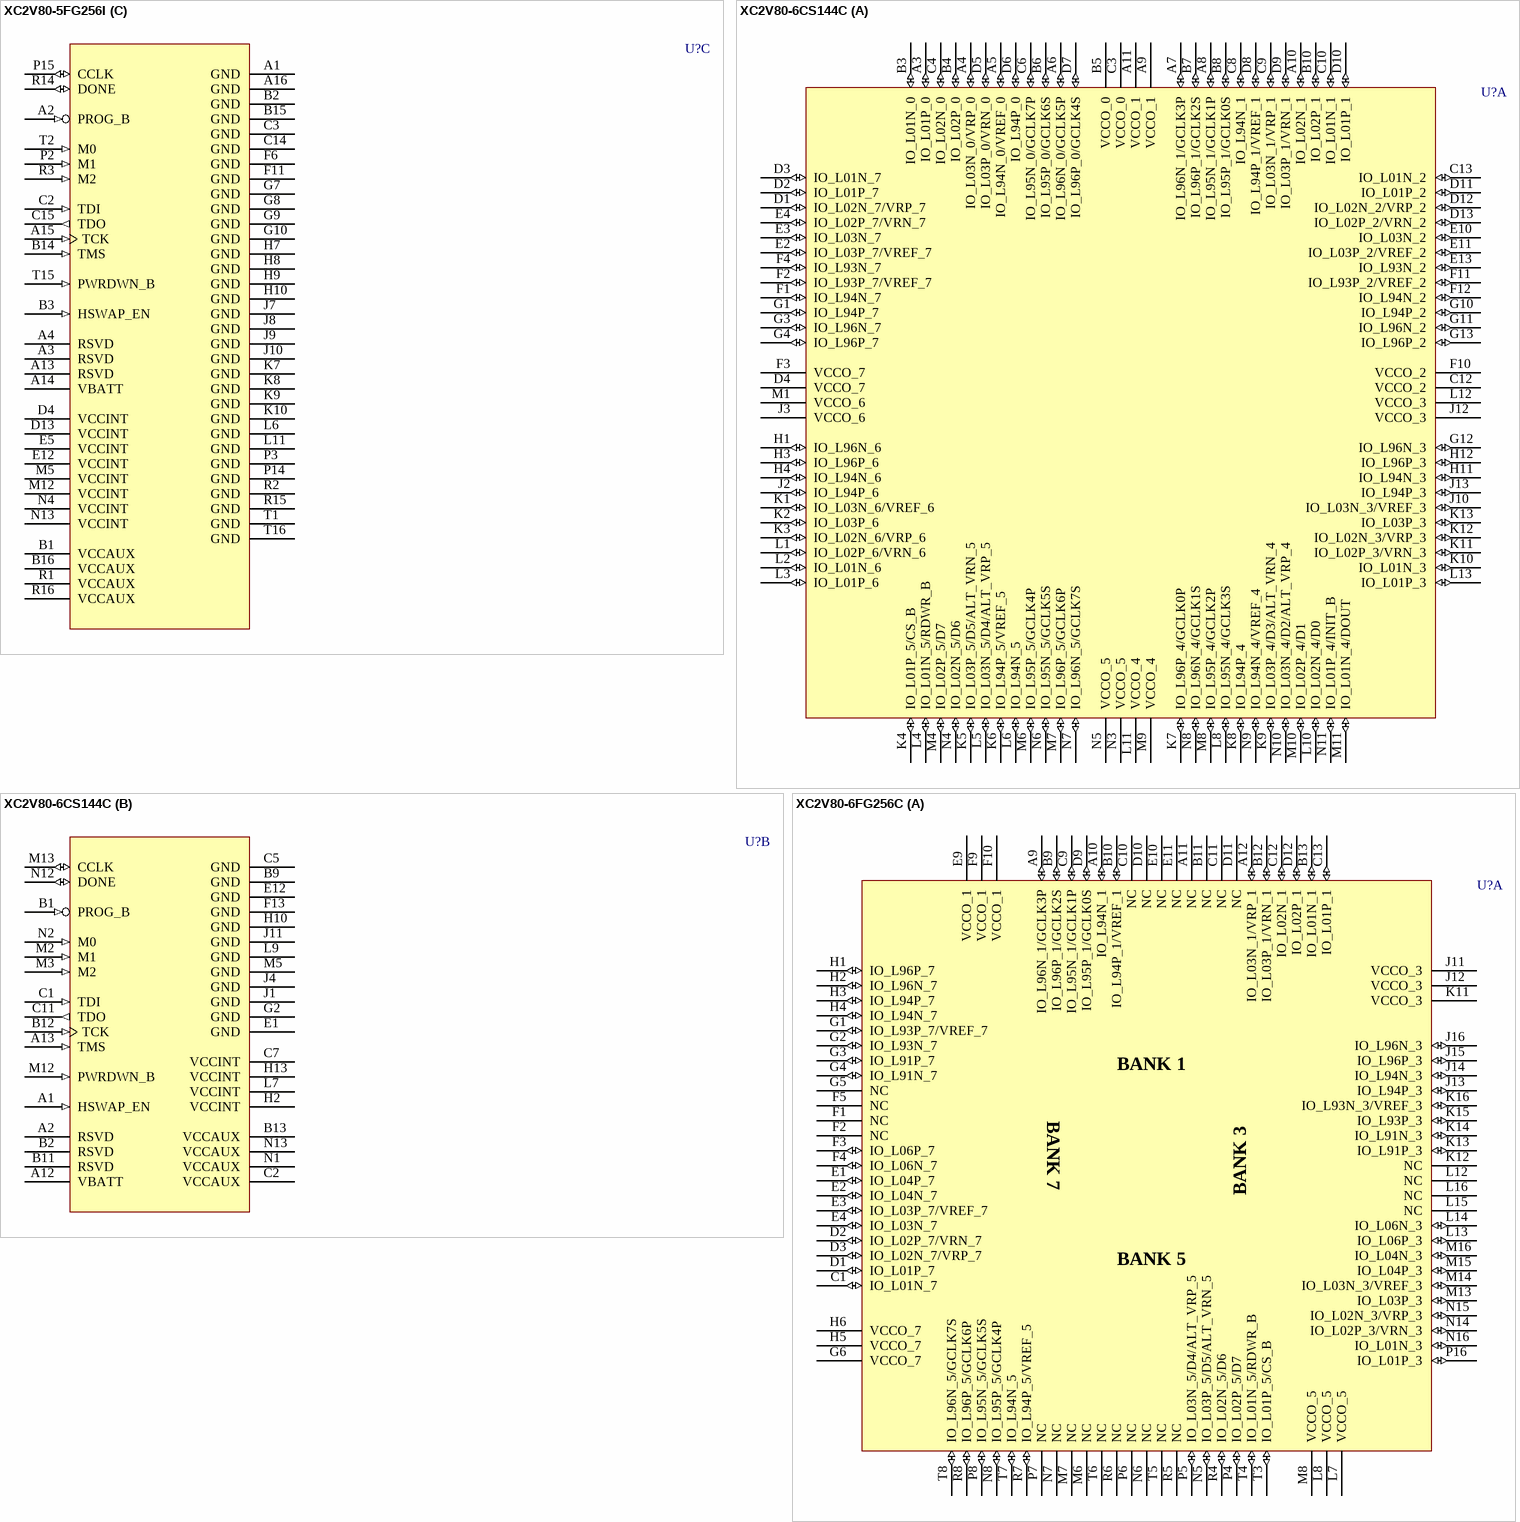
[diagram p11: symbols XC2V80-5FG256I to XC2V80-6FG256C]

## XC2V80-5FG256I
designator U?
Virtex-II 1.5V FPGA, 256-Ball FBGA, Industrial Grade; PackageDocument: ver1.1, Apr-2001; Published: 15-Apr-2002; DatasheetDocument: Mar-2004; PackageReference: FG256; Publisher: Altium Limited; Code_JEDEC: MO-151-AAF-1; Code_IPC: PBGA 17X17 FE256
footprint FG256 (256-Ball Fine Pitch Ball Grid Array (FG256))
3D model XC2V80-FG256 (256-Ball Fine Pitch Ball Grid Array (FG256))
signal-integrity model XC2V80_FG256 (Virtex-II)
part A pins: A9 IO_L96N_1/GCLK3P (io), A10 IO_L94N_1 (io), A11 NC, A12 IO_L03N_1/VRP_1 (io), B9 IO_L96P_1/GCLK2S (io), B10 IO_L94P_1/VREF_1 (io), B11 NC, B12 IO_L03P_1/VRN_1 (io), B13 IO_L01N_1 (io), C1 IO_L01N_7 (io), C9 IO_L95N_1/GCLK1P (io), C10 NC, C11 NC, C12 IO_L02N_1 (io), C13 IO_L01P_1 (io), D1 IO_L01P_7 (io), D2 IO_L02P_7/VRN_7 (io), D3 IO_L02N_7/VRP_7 (io), D9 IO_L95P_1/GCLK0S (io), D10 NC, D11 NC, D12 IO_L02P_1 (io), E1 IO_L04P_7 (io), E2 IO_L04N_7 (io), E3 IO_L03P_7/VREF_7 (io), E4 IO_L03N_7 (io), E9 VCCO_1 (power), E10 NC, E11 NC, F1 NC, F2 NC, F3 IO_L06P_7 (io), F4 IO_L06N_7 (io), F5 NC, F9 VCCO_1 (power), F10 VCCO_1 (power), G1 IO_L93P_7/VREF_7 (io), G2 IO_L93N_7 (io), G3 IO_L91P_7 (io), G4 IO_L91N_7 (io), G5 NC, G6 VCCO_7 (power), H1 IO_L96P_7 (io), H2 IO_L96N_7 (io), H3 IO_L94P_7 (io), H4 IO_L94N_7 (io), H5 VCCO_7 (power), H6 VCCO_7 (power), J11 VCCO_3 (power), J12 VCCO_3 (power), J13 IO_L94P_3 (io), J14 IO_L94N_3 (io), J15 IO_L96P_3 (io), J16 IO_L96N_3 (io), K11 VCCO_3 (power), K12 NC, K13 IO_L91P_3 (io), K14 IO_L91N_3 (io), K15 IO_L93P_3 (io), K16 IO_L93N_3/VREF_3 (io), L7 VCCO_5 (power), L8 VCCO_5 (power), L12 NC, L13 IO_L06P_3 (io), L14 IO_L06N_3 (io), L15 NC, L16 NC, M6 NC, M7 NC, M8 VCCO_5 (power), M13 IO_L03P_3 (io), M14 IO_L03N_3/VREF_3 (io), M15 IO_L04P_3 (io), M16 IO_L04N_3 (io), N5 IO_L03P_5/D5/ALT_VRN_5 (io), N6 NC, N7 NC, N8 IO_L95P_5/GCLK4P (io), N14 IO_L02P_3/VRN_3 (io), N15 IO_L02N_3/VRP_3 (io), N16 IO_L01N_3 (io), P4 IO_L02P_5/D7 (io), P5 IO_L03N_5/D4/ALT_VRP_5 (io), P6 NC, P7 NC, P8 IO_L95N_5/GCLK5S (io), P16 IO_L01P_3 (io), R4 IO_L02N_5/D6 (io), R5 NC, R6 NC, R7 IO_L94P_5/VREF_5 (io), R8 IO_L96P_5/GCLK6P (io), T3 IO_L01P_5/CS_B (io), T4 IO_L01N_5/RDWR_B (io), T5 NC, T6 NC, T7 IO_L94N_5 (io), T8 IO_L96N_5/GCLK7S (io)
part B pins: A5 IO_L03P_0/VRN_0 (io), A6 NC, A7 IO_L94P_0 (io), A8 IO_L96P_0/GCLK4S (io), B4 IO_L01P_0 (io), B5 IO_L03N_0/VRP_0 (io), B6 NC, B7 IO_L94N_0/VREF_0 (io), B8 IO_L96N_0/GCLK5P (io), C4 IO_L01N_0 (io), C5 IO_L02P_0 (io), C6 NC, C7 NC, C8 IO_L95P_0/GCLK6S (io), C16 IO_L01N_2 (io), D5 IO_L02N_0 (io), D6 NC, D7 NC, D8 IO_L95N_0/GCLK7P (io), D14 IO_L02N_2/VRP_2 (io), D15 IO_L02P_2/VRN_2 (io), D16 IO_L01P_2 (io), E6 NC, E7 NC, E8 VCCO_0 (power), E13 IO_L03N_2 (io), E14 IO_L03P_2/VREF_2 (io), E15 IO_L04N_2 (io), E16 IO_L04P_2 (io), F7 VCCO_0 (power), F8 VCCO_0 (power), F12 NC, F13 IO_L06N_2 (io), F14 IO_L06P_2 (io), F15 NC, F16 NC, G11 VCCO_2 (power), G12 NC, G13 IO_L91N_2 (io), G14 IO_L91P_2 (io), G15 IO_L93N_2 (io), G16 IO_L93P_2/VREF_2 (io), H11 VCCO_2 (power), H12 VCCO_2 (power), H13 IO_L94N_2 (io), H14 IO_L94P_2 (io), H15 IO_L96N_2 (io), H16 IO_L96P_2 (io), J1 IO_L96N_6 (io), J2 IO_L96P_6 (io), J3 IO_L94N_6 (io), J4 IO_L94P_6 (io), J5 VCCO_6 (power), J6 VCCO_6 (power), K1 IO_L93N_6/VREF_6 (io), K2 IO_L93P_6 (io), K3 IO_L91N_6 (io), K4 IO_L91P_6 (io), K5 NC, K6 VCCO_6 (power), L1 NC, L2 NC, L3 IO_L06N_6 (io), L4 IO_L06P_6 (io), L5 NC, L9 VCCO_4 (power), L10 VCCO_4 (power), M1 IO_L04N_6 (io), M2 IO_L04P_6 (io), M3 IO_L03N_6/VREF_6 (io), M4 IO_L03P_6 (io), M9 VCCO_4 (power), M10 NC, M11 NC, N1 IO_L01N_6 (io), N2 IO_L02N_6/VRP_6 (io), N3 IO_L02P_6/VRN_6 (io), N9 IO_L95N_4/GCLK3S (io), N10 NC, N11 NC, N12 IO_L03N_4/D2/ALT_VRP_4 (io), P1 IO_L01P_6 (io), P9 IO_L95P_4/GCLK2P (io), P10 NC, P11 NC, P12 IO_L03P_4/D3/ALT_VRN_4 (io), P13 IO_L02N_4/D0 (io), R9 IO_L96N_4/GCLK1S (io), R10 IO_L94N_4/VREF_4 (io), R11 NC, R12 NC, R13 IO_L02P_4/D1 (io), T9 IO_L96P_4/GCLK0P (io), T10 IO_L94P_4 (io), T11 NC, T12 NC, T13 IO_L01P_4/INIT_B (io), T14 IO_L01N_4/DOUT (io)
part C pins: A1 GND (power), A2 PROG_B (in), A3 RSVD, A4 RSVD, A13 RSVD, A14 VBATT (power), A15 TCK (in), A16 GND (power), B1 VCCAUX (power), B2 GND (power), B3 HSWAP_EN (in), B14 TMS (in), B15 GND (power), B16 VCCAUX (power), C2 TDI (in), C3 GND (power), C14 GND (power), C15 TDO (out), D4 VCCINT (power), D13 VCCINT (power), E5 VCCINT (power), E12 VCCINT (power), F6 GND (power), F11 GND (power), G7 GND (power), G8 GND (power), G9 GND (power), G10 GND (power), H7 GND (power), H8 GND (power), H9 GND (power), H10 GND (power), J7 GND (power), J8 GND (power), J9 GND (power), J10 GND (power), K7 GND (power), K8 GND (power), K9 GND (power), K10 GND (power), L6 GND (power), L11 GND (power), M5 VCCINT (power), M12 VCCINT (power), N4 VCCINT (power), N13 VCCINT (power), P2 M1 (in), P3 GND (power), P14 GND (power), P15 CCLK (io), R1 VCCAUX (power), R2 GND (power), R3 M2 (in), R14 DONE (io), R15 GND (power), R16 VCCAUX (power), T1 GND (power), T2 M0 (in), T15 PWRDWN_B (in), T16 GND (power)
part A text: BANK 1; BANK 7; BANK 3; BANK 5
part B text: BANK 0; BANK 6; BANK 2; BANK 4

## XC2V80-6CS144C
designator U?
Virtex-II 1.5V FPGA, 144-Ball CSBGA, Commercial Grade; PackageDocument: ver1.0, Jun-2000; Published: 15-Apr-2002; LatestRevisionDate: 17-Sep-2003; LatestRevisionNote: PCB Footprint dimensions updated; DatasheetDocument: Mar-2004; PackageReference: CS144; Publisher: Altium Limited
footprint CS144 (144-Ball Chip Scale Ball Grid Array (CS144))
3D model XC2V80-CS144 (144-Ball Chip Scale Ball Grid Array (CS144))
signal-integrity model XC2V80_CS144 (Virtex-II)
part A pins: A3 IO_L01P_0 (io), A4 IO_L03N_0/VRP_0 (io), A5 IO_L94N_0/VREF_0 (io), A6 IO_L96N_0/GCLK5P (io), A7 IO_L96N_1/GCLK3P (io), A8 IO_L95N_1/GCLK1P (io), A9 VCCO_1 (power), A10 IO_L02N_1 (io), A11 VCCO_1 (power), B3 IO_L01N_0 (io), B4 IO_L02P_0 (io), B5 VCCO_0 (power), B6 IO_L95P_0/GCLK6S (io), B7 IO_L96P_1/GCLK2S (io), B8 IO_L95P_1/GCLK0S (io), B10 IO_L02P_1 (io), C3 VCCO_0 (power), C4 IO_L02N_0 (io), C6 IO_L95N_0/GCLK7P (io), C8 IO_L94N_1 (io), C9 IO_L03N_1/VRP_1 (io), C10 IO_L01N_1 (io), C12 VCCO_2 (power), C13 IO_L01N_2 (io), D1 IO_L02N_7/VRP_7 (io), D2 IO_L01P_7 (io), D3 IO_L01N_7 (io), D4 VCCO_7 (power), D5 IO_L03P_0/VRN_0 (io), D6 IO_L94P_0 (io), D7 IO_L96P_0/GCLK4S (io), D8 IO_L94P_1/VREF_1 (io), D9 IO_L03P_1/VRN_1 (io), D10 IO_L01P_1 (io), D11 IO_L01P_2 (io), D12 IO_L02N_2/VRP_2 (io), D13 IO_L02P_2/VRN_2 (io), E2 IO_L03P_7/VREF_7 (io), E3 IO_L03N_7 (io), E4 IO_L02P_7/VRN_7 (io), E10 IO_L03N_2 (io), E11 IO_L03P_2/VREF_2 (io), E13 IO_L93N_2 (io), F1 IO_L94N_7 (io), F2 IO_L93P_7/VREF_7 (io), F3 VCCO_7 (power), F4 IO_L93N_7 (io), F10 VCCO_2 (power), F11 IO_L93P_2/VREF_2 (io), F12 IO_L94N_2 (io), G1 IO_L94P_7 (io), G3 IO_L96N_7 (io), G4 IO_L96P_7 (io), G10 IO_L94P_2 (io), G11 IO_L96N_2 (io), G12 IO_L96N_3 (io), G13 IO_L96P_2 (io), H1 IO_L96N_6 (io), H3 IO_L96P_6 (io), H4 IO_L94N_6 (io), H11 IO_L94N_3 (io), H12 IO_L96P_3 (io), J2 IO_L94P_6 (io), J3 VCCO_6 (power), J10 IO_L03N_3/VREF_3 (io), J12 VCCO_3 (power), J13 IO_L94P_3 (io), K1 IO_L03N_6/VREF_6 (io), K2 IO_L03P_6 (io), K3 IO_L02N_6/VRP_6 (io), K4 IO_L01P_5/CS_B (io), K5 IO_L03P_5/D5/ALT_VRN_5 (io), K6 IO_L94P_5/VREF_5 (io), K7 IO_L96P_4/GCLK0P (io), K8 IO_L94P_4 (io), K9 IO_L03P_4/D3/ALT_VRN_4 (io), K10 IO_L01N_3 (io), K11 IO_L02P_3/VRN_3 (io), K12 IO_L02N_3/VRP_3 (io), K13 IO_L03P_3 (io), L1 IO_L02P_6/VRN_6 (io), L2 IO_L01N_6 (io), L3 IO_L01P_6 (io), L4 IO_L01N_5/RDWR_B (io), L5 IO_L03N_5/D4/ALT_VRP_5 (io), L6 IO_L94N_5 (io), L8 IO_L95N_4/GCLK3S (io), L10 IO_L02N_4/D0 (io), L11 VCCO_4 (power), L12 VCCO_3 (power), L13 IO_L01P_3 (io), M1 VCCO_6 (power), M4 IO_L02P_5/D7 (io), M6 IO_L95P_5/GCLK4P (io), M7 IO_L96P_5/GCLK6P (io), M8 IO_L95P_4/GCLK2P (io), M9 VCCO_4 (power), M10 IO_L02P_4/D1 (io), M11 IO_L01N_4/DOUT (io), N3 VCCO_5 (power), N4 IO_L02N_5/D6 (io), N5 VCCO_5 (power), N6 IO_L95N_5/GCLK5S (io), N7 IO_L96N_5/GCLK7S (io), N8 IO_L96N_4/GCLK1S (io), N9 IO_L94N_4/VREF_4 (io), N10 IO_L03N_4/D2/ALT_VRP_4 (io), N11 IO_L01P_4/INIT_B (io)
part B pins: A1 HSWAP_EN (in), A2 RSVD, A12 VBATT (power), A13 TMS (in), B1 PROG_B (in), B2 RSVD, B9 GND (power), B11 RSVD, B12 TCK (in), B13 VCCAUX (power), C1 TDI (in), C2 VCCAUX (power), C5 GND (power), C7 VCCINT (power), C11 TDO (out), E1 GND (power), E12 GND (power), F13 GND (power), G2 GND (power), H2 VCCINT (power), H10 GND (power), H13 VCCINT (power), J1 GND (power), J4 GND (power), J11 GND (power), L7 VCCINT (power), L9 GND (power), M2 M1 (in), M3 M2 (in), M5 GND (power), M12 PWRDWN_B (in), M13 CCLK (io), N1 VCCAUX (power), N2 M0 (in), N12 DONE (io), N13 VCCAUX (power)

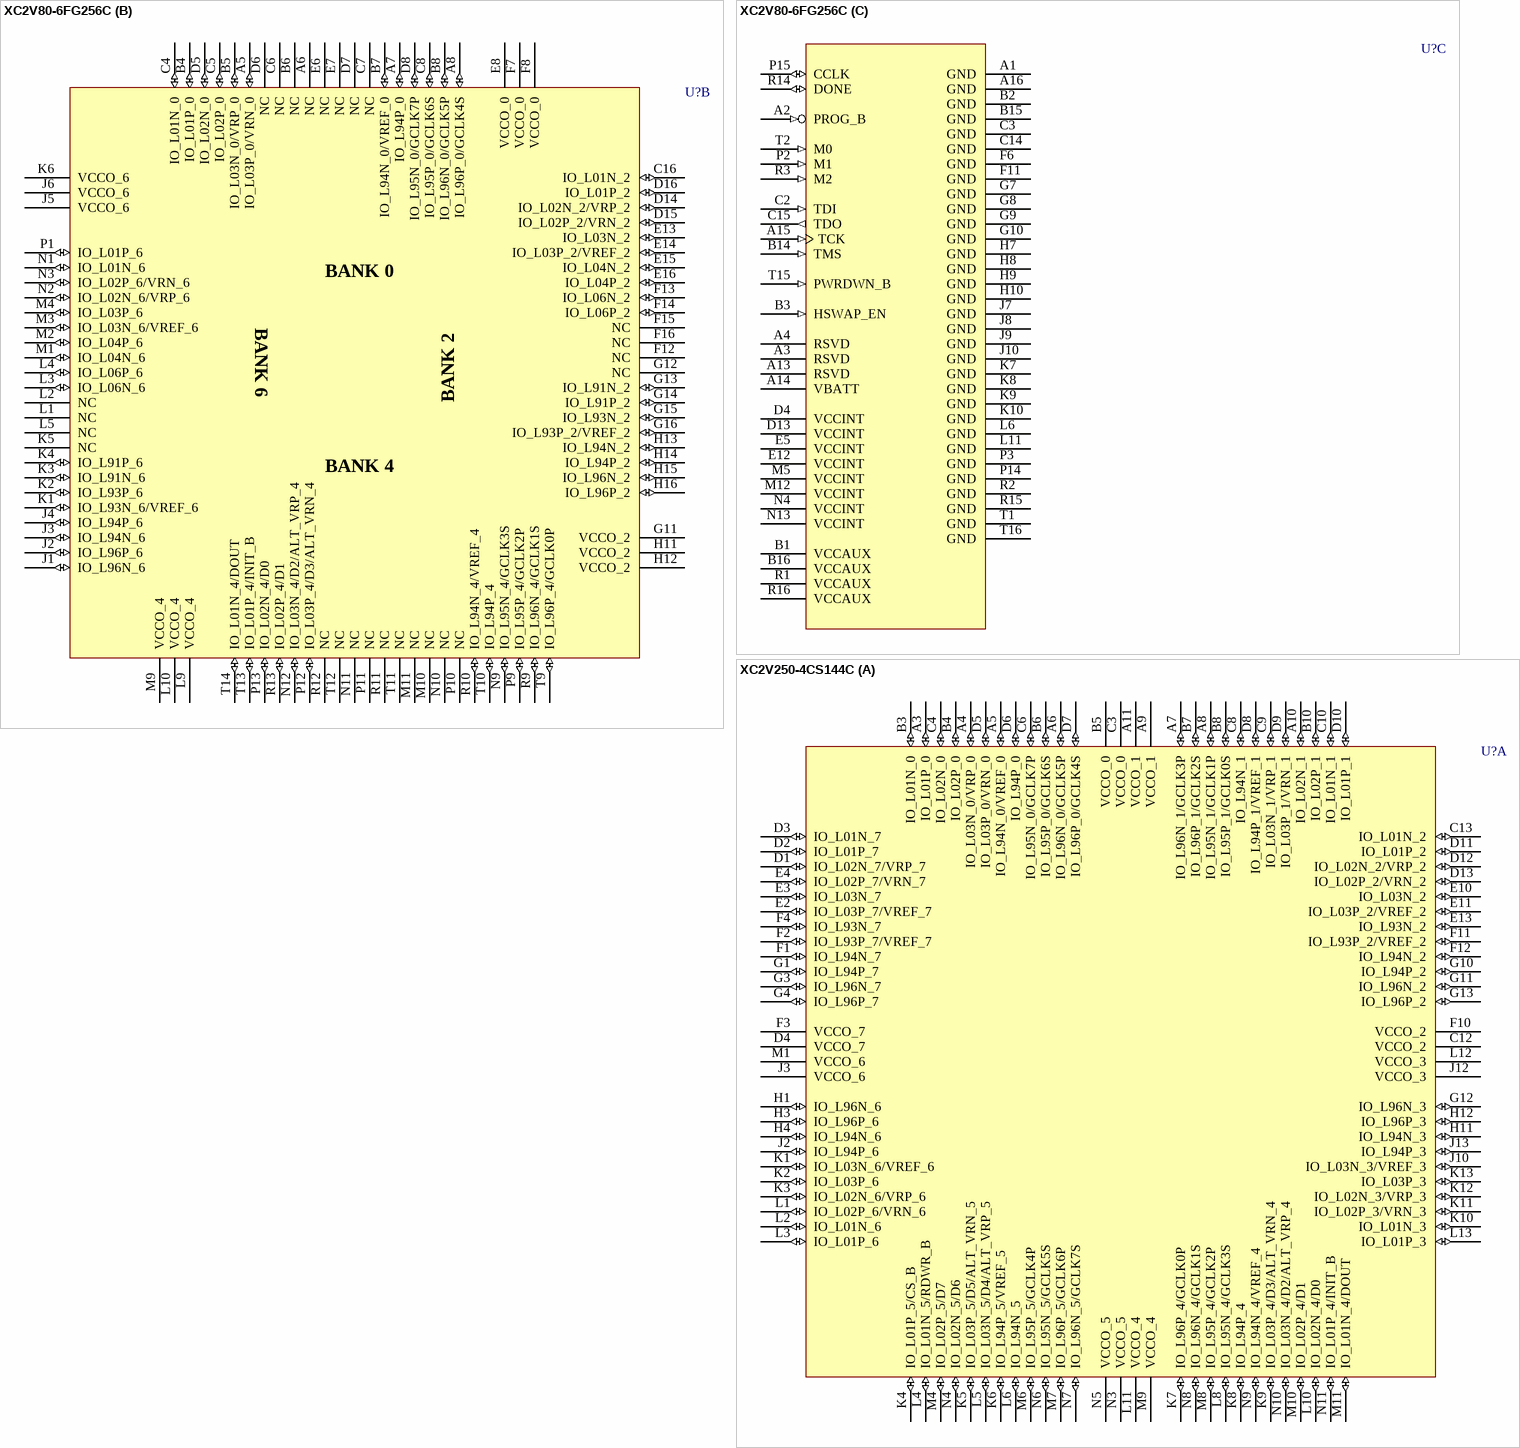
[diagram p12: symbols XC2V80-6FG256C to XC2V250-4CS144C]

## XC2V80-6FG256C
designator U?
Virtex-II 1.5V FPGA, 256-Ball FBGA, Commercial Grade; PackageDocument: ver1.1, Apr-2001; Published: 15-Apr-2002; DatasheetDocument: Mar-2004; PackageReference: FG256; Publisher: Altium Limited; Code_JEDEC: MO-151-AAF-1; Code_IPC: PBGA 17X17 FE256
footprint FG256 (256-Ball Fine Pitch Ball Grid Array (FG256))
3D model XC2V80-FG256 (256-Ball Fine Pitch Ball Grid Array (FG256))
signal-integrity model XC2V80_FG256 (Virtex-II)
part A pins: A9 IO_L96N_1/GCLK3P (io), A10 IO_L94N_1 (io), A11 NC, A12 IO_L03N_1/VRP_1 (io), B9 IO_L96P_1/GCLK2S (io), B10 IO_L94P_1/VREF_1 (io), B11 NC, B12 IO_L03P_1/VRN_1 (io), B13 IO_L01N_1 (io), C1 IO_L01N_7 (io), C9 IO_L95N_1/GCLK1P (io), C10 NC, C11 NC, C12 IO_L02N_1 (io), C13 IO_L01P_1 (io), D1 IO_L01P_7 (io), D2 IO_L02P_7/VRN_7 (io), D3 IO_L02N_7/VRP_7 (io), D9 IO_L95P_1/GCLK0S (io), D10 NC, D11 NC, D12 IO_L02P_1 (io), E1 IO_L04P_7 (io), E2 IO_L04N_7 (io), E3 IO_L03P_7/VREF_7 (io), E4 IO_L03N_7 (io), E9 VCCO_1 (power), E10 NC, E11 NC, F1 NC, F2 NC, F3 IO_L06P_7 (io), F4 IO_L06N_7 (io), F5 NC, F9 VCCO_1 (power), F10 VCCO_1 (power), G1 IO_L93P_7/VREF_7 (io), G2 IO_L93N_7 (io), G3 IO_L91P_7 (io), G4 IO_L91N_7 (io), G5 NC, G6 VCCO_7 (power), H1 IO_L96P_7 (io), H2 IO_L96N_7 (io), H3 IO_L94P_7 (io), H4 IO_L94N_7 (io), H5 VCCO_7 (power), H6 VCCO_7 (power), J11 VCCO_3 (power), J12 VCCO_3 (power), J13 IO_L94P_3 (io), J14 IO_L94N_3 (io), J15 IO_L96P_3 (io), J16 IO_L96N_3 (io), K11 VCCO_3 (power), K12 NC, K13 IO_L91P_3 (io), K14 IO_L91N_3 (io), K15 IO_L93P_3 (io), K16 IO_L93N_3/VREF_3 (io), L7 VCCO_5 (power), L8 VCCO_5 (power), L12 NC, L13 IO_L06P_3 (io), L14 IO_L06N_3 (io), L15 NC, L16 NC, M6 NC, M7 NC, M8 VCCO_5 (power), M13 IO_L03P_3 (io), M14 IO_L03N_3/VREF_3 (io), M15 IO_L04P_3 (io), M16 IO_L04N_3 (io), N5 IO_L03P_5/D5/ALT_VRN_5 (io), N6 NC, N7 NC, N8 IO_L95P_5/GCLK4P (io), N14 IO_L02P_3/VRN_3 (io), N15 IO_L02N_3/VRP_3 (io), N16 IO_L01N_3 (io), P4 IO_L02P_5/D7 (io), P5 IO_L03N_5/D4/ALT_VRP_5 (io), P6 NC, P7 NC, P8 IO_L95N_5/GCLK5S (io), P16 IO_L01P_3 (io), R4 IO_L02N_5/D6 (io), R5 NC, R6 NC, R7 IO_L94P_5/VREF_5 (io), R8 IO_L96P_5/GCLK6P (io), T3 IO_L01P_5/CS_B (io), T4 IO_L01N_5/RDWR_B (io), T5 NC, T6 NC, T7 IO_L94N_5 (io), T8 IO_L96N_5/GCLK7S (io)
part B pins: A5 IO_L03P_0/VRN_0 (io), A6 NC, A7 IO_L94P_0 (io), A8 IO_L96P_0/GCLK4S (io), B4 IO_L01P_0 (io), B5 IO_L03N_0/VRP_0 (io), B6 NC, B7 IO_L94N_0/VREF_0 (io), B8 IO_L96N_0/GCLK5P (io), C4 IO_L01N_0 (io), C5 IO_L02P_0 (io), C6 NC, C7 NC, C8 IO_L95P_0/GCLK6S (io), C16 IO_L01N_2 (io), D5 IO_L02N_0 (io), D6 NC, D7 NC, D8 IO_L95N_0/GCLK7P (io), D14 IO_L02N_2/VRP_2 (io), D15 IO_L02P_2/VRN_2 (io), D16 IO_L01P_2 (io), E6 NC, E7 NC, E8 VCCO_0 (power), E13 IO_L03N_2 (io), E14 IO_L03P_2/VREF_2 (io), E15 IO_L04N_2 (io), E16 IO_L04P_2 (io), F7 VCCO_0 (power), F8 VCCO_0 (power), F12 NC, F13 IO_L06N_2 (io), F14 IO_L06P_2 (io), F15 NC, F16 NC, G11 VCCO_2 (power), G12 NC, G13 IO_L91N_2 (io), G14 IO_L91P_2 (io), G15 IO_L93N_2 (io), G16 IO_L93P_2/VREF_2 (io), H11 VCCO_2 (power), H12 VCCO_2 (power), H13 IO_L94N_2 (io), H14 IO_L94P_2 (io), H15 IO_L96N_2 (io), H16 IO_L96P_2 (io), J1 IO_L96N_6 (io), J2 IO_L96P_6 (io), J3 IO_L94N_6 (io), J4 IO_L94P_6 (io), J5 VCCO_6 (power), J6 VCCO_6 (power), K1 IO_L93N_6/VREF_6 (io), K2 IO_L93P_6 (io), K3 IO_L91N_6 (io), K4 IO_L91P_6 (io), K5 NC, K6 VCCO_6 (power), L1 NC, L2 NC, L3 IO_L06N_6 (io), L4 IO_L06P_6 (io), L5 NC, L9 VCCO_4 (power), L10 VCCO_4 (power), M1 IO_L04N_6 (io), M2 IO_L04P_6 (io), M3 IO_L03N_6/VREF_6 (io), M4 IO_L03P_6 (io), M9 VCCO_4 (power), M10 NC, M11 NC, N1 IO_L01N_6 (io), N2 IO_L02N_6/VRP_6 (io), N3 IO_L02P_6/VRN_6 (io), N9 IO_L95N_4/GCLK3S (io), N10 NC, N11 NC, N12 IO_L03N_4/D2/ALT_VRP_4 (io), P1 IO_L01P_6 (io), P9 IO_L95P_4/GCLK2P (io), P10 NC, P11 NC, P12 IO_L03P_4/D3/ALT_VRN_4 (io), P13 IO_L02N_4/D0 (io), R9 IO_L96N_4/GCLK1S (io), R10 IO_L94N_4/VREF_4 (io), R11 NC, R12 NC, R13 IO_L02P_4/D1 (io), T9 IO_L96P_4/GCLK0P (io), T10 IO_L94P_4 (io), T11 NC, T12 NC, T13 IO_L01P_4/INIT_B (io), T14 IO_L01N_4/DOUT (io)
part C pins: A1 GND (power), A2 PROG_B (in), A3 RSVD, A4 RSVD, A13 RSVD, A14 VBATT (power), A15 TCK (in), A16 GND (power), B1 VCCAUX (power), B2 GND (power), B3 HSWAP_EN (in), B14 TMS (in), B15 GND (power), B16 VCCAUX (power), C2 TDI (in), C3 GND (power), C14 GND (power), C15 TDO (out), D4 VCCINT (power), D13 VCCINT (power), E5 VCCINT (power), E12 VCCINT (power), F6 GND (power), F11 GND (power), G7 GND (power), G8 GND (power), G9 GND (power), G10 GND (power), H7 GND (power), H8 GND (power), H9 GND (power), H10 GND (power), J7 GND (power), J8 GND (power), J9 GND (power), J10 GND (power), K7 GND (power), K8 GND (power), K9 GND (power), K10 GND (power), L6 GND (power), L11 GND (power), M5 VCCINT (power), M12 VCCINT (power), N4 VCCINT (power), N13 VCCINT (power), P2 M1 (in), P3 GND (power), P14 GND (power), P15 CCLK (io), R1 VCCAUX (power), R2 GND (power), R3 M2 (in), R14 DONE (io), R15 GND (power), R16 VCCAUX (power), T1 GND (power), T2 M0 (in), T15 PWRDWN_B (in), T16 GND (power)
part A text: BANK 1; BANK 7; BANK 3; BANK 5
part B text: BANK 0; BANK 6; BANK 2; BANK 4

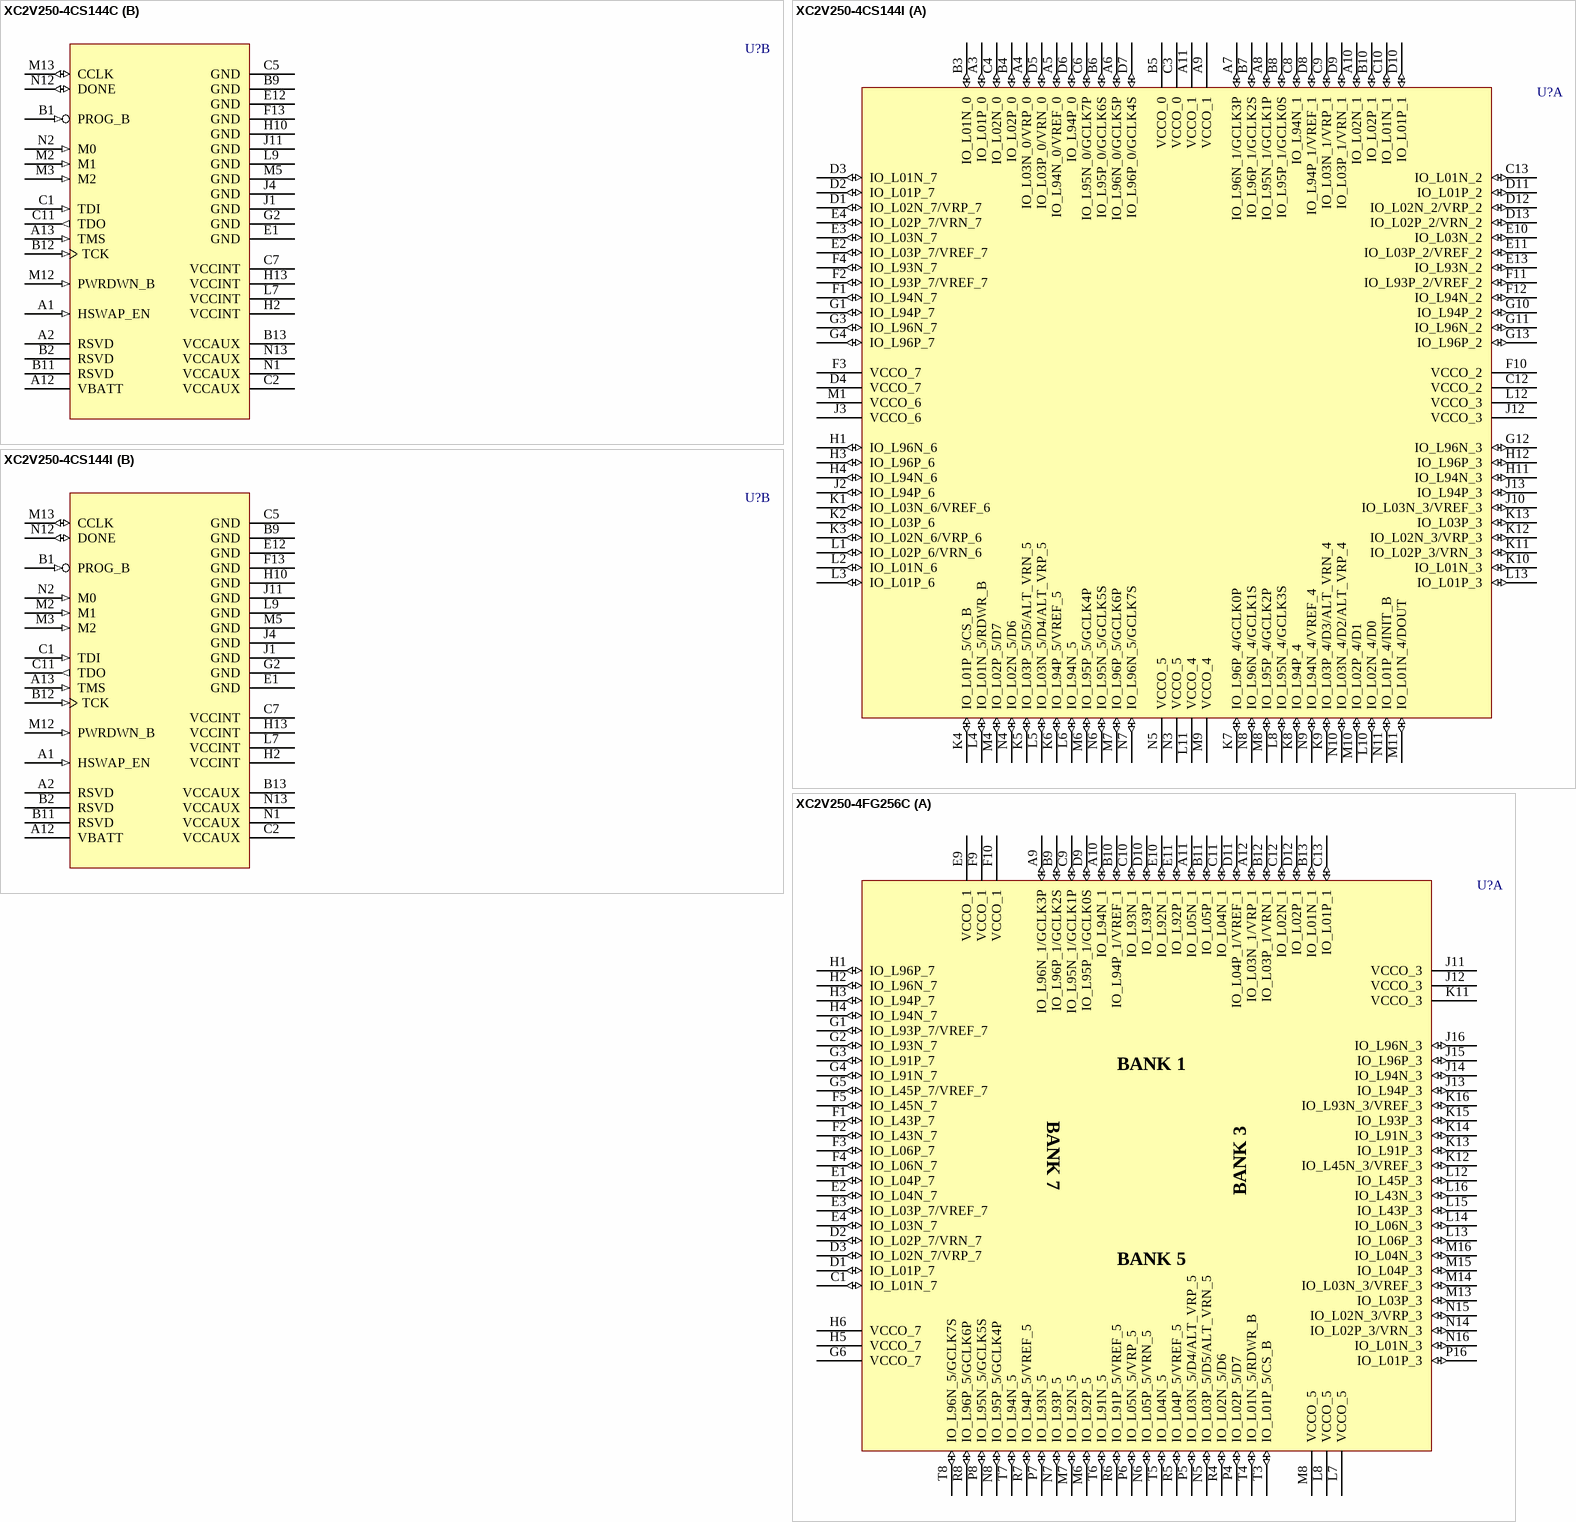
[diagram p13: symbols XC2V250-4CS144C to XC2V250-4FG256C]

## XC2V250-4CS144C
designator U?
Virtex-II 1.5V FPGA, 144-Ball CSBGA, Commercial Grade; PackageDocument: ver1.0, Jun-2000; Published: 15-Apr-2002; LatestRevisionDate: 17-Sep-2003; LatestRevisionNote: PCB Footprint dimensions updated; DatasheetDocument: Mar-2004; PackageReference: CS144; Publisher: Altium Limited
footprint CS144 (144-Ball Chip Scale Ball Grid Array (CS144))
3D model XC2V250-CS144 (144-Ball Chip Scale Ball Grid Array (CS144))
signal-integrity model XC2V250_CS144 (Virtex-II)
part A pins: A3 IO_L01P_0 (io), A4 IO_L03N_0/VRP_0 (io), A5 IO_L94N_0/VREF_0 (io), A6 IO_L96N_0/GCLK5P (io), A7 IO_L96N_1/GCLK3P (io), A8 IO_L95N_1/GCLK1P (io), A9 VCCO_1 (power), A10 IO_L02N_1 (io), A11 VCCO_1 (power), B3 IO_L01N_0 (io), B4 IO_L02P_0 (io), B5 VCCO_0 (power), B6 IO_L95P_0/GCLK6S (io), B7 IO_L96P_1/GCLK2S (io), B8 IO_L95P_1/GCLK0S (io), B10 IO_L02P_1 (io), C3 VCCO_0 (power), C4 IO_L02N_0 (io), C6 IO_L95N_0/GCLK7P (io), C8 IO_L94N_1 (io), C9 IO_L03N_1/VRP_1 (io), C10 IO_L01N_1 (io), C12 VCCO_2 (power), C13 IO_L01N_2 (io), D1 IO_L02N_7/VRP_7 (io), D2 IO_L01P_7 (io), D3 IO_L01N_7 (io), D4 VCCO_7 (power), D5 IO_L03P_0/VRN_0 (io), D6 IO_L94P_0 (io), D7 IO_L96P_0/GCLK4S (io), D8 IO_L94P_1/VREF_1 (io), D9 IO_L03P_1/VRN_1 (io), D10 IO_L01P_1 (io), D11 IO_L01P_2 (io), D12 IO_L02N_2/VRP_2 (io), D13 IO_L02P_2/VRN_2 (io), E2 IO_L03P_7/VREF_7 (io), E3 IO_L03N_7 (io), E4 IO_L02P_7/VRN_7 (io), E10 IO_L03N_2 (io), E11 IO_L03P_2/VREF_2 (io), E13 IO_L93N_2 (io), F1 IO_L94N_7 (io), F2 IO_L93P_7/VREF_7 (io), F3 VCCO_7 (power), F4 IO_L93N_7 (io), F10 VCCO_2 (power), F11 IO_L93P_2/VREF_2 (io), F12 IO_L94N_2 (io), G1 IO_L94P_7 (io), G3 IO_L96N_7 (io), G4 IO_L96P_7 (io), G10 IO_L94P_2 (io), G11 IO_L96N_2 (io), G12 IO_L96N_3 (io), G13 IO_L96P_2 (io), H1 IO_L96N_6 (io), H3 IO_L96P_6 (io), H4 IO_L94N_6 (io), H11 IO_L94N_3 (io), H12 IO_L96P_3 (io), J2 IO_L94P_6 (io), J3 VCCO_6 (power), J10 IO_L03N_3/VREF_3 (io), J12 VCCO_3 (power), J13 IO_L94P_3 (io), K1 IO_L03N_6/VREF_6 (io), K2 IO_L03P_6 (io), K3 IO_L02N_6/VRP_6 (io), K4 IO_L01P_5/CS_B (io), K5 IO_L03P_5/D5/ALT_VRN_5 (io), K6 IO_L94P_5/VREF_5 (io), K7 IO_L96P_4/GCLK0P (io), K8 IO_L94P_4 (io), K9 IO_L03P_4/D3/ALT_VRN_4 (io), K10 IO_L01N_3 (io), K11 IO_L02P_3/VRN_3 (io), K12 IO_L02N_3/VRP_3 (io), K13 IO_L03P_3 (io), L1 IO_L02P_6/VRN_6 (io), L2 IO_L01N_6 (io), L3 IO_L01P_6 (io), L4 IO_L01N_5/RDWR_B (io), L5 IO_L03N_5/D4/ALT_VRP_5 (io), L6 IO_L94N_5 (io), L8 IO_L95N_4/GCLK3S (io), L10 IO_L02N_4/D0 (io), L11 VCCO_4 (power), L12 VCCO_3 (power), L13 IO_L01P_3 (io), M1 VCCO_6 (power), M4 IO_L02P_5/D7 (io), M6 IO_L95P_5/GCLK4P (io), M7 IO_L96P_5/GCLK6P (io), M8 IO_L95P_4/GCLK2P (io), M9 VCCO_4 (power), M10 IO_L02P_4/D1 (io), M11 IO_L01N_4/DOUT (io), N3 VCCO_5 (power), N4 IO_L02N_5/D6 (io), N5 VCCO_5 (power), N6 IO_L95N_5/GCLK5S (io), N7 IO_L96N_5/GCLK7S (io), N8 IO_L96N_4/GCLK1S (io), N9 IO_L94N_4/VREF_4 (io), N10 IO_L03N_4/D2/ALT_VRP_4 (io), N11 IO_L01P_4/INIT_B (io)
part B pins: A1 HSWAP_EN (in), A2 RSVD, A12 VBATT (power), A13 TMS (in), B1 PROG_B (in), B2 RSVD, B9 GND (power), B11 RSVD, B12 TCK (in), B13 VCCAUX (power), C1 TDI (in), C2 VCCAUX (power), C5 GND (power), C7 VCCINT (power), C11 TDO (out), E1 GND (power), E12 GND (power), F13 GND (power), G2 GND (power), H2 VCCINT (power), H10 GND (power), H13 VCCINT (power), J1 GND (power), J4 GND (power), J11 GND (power), L7 VCCINT (power), L9 GND (power), M2 M1 (in), M3 M2 (in), M5 GND (power), M12 PWRDWN_B (in), M13 CCLK (io), N1 VCCAUX (power), N2 M0 (in), N12 DONE (io), N13 VCCAUX (power)

## XC2V250-4CS144I
designator U?
Virtex-II 1.5V FPGA, 144-Ball CSBGA, Industrial Grade; PackageDocument: ver1.0, Jun-2000; Published: 15-Apr-2002; LatestRevisionDate: 17-Sep-2003; LatestRevisionNote: PCB Footprint dimensions updated; DatasheetDocument: Mar-2004; PackageReference: CS144; Publisher: Altium Limited
footprint CS144 (144-Ball Chip Scale Ball Grid Array (CS144))
3D model XC2V250-CS144 (144-Ball Chip Scale Ball Grid Array (CS144))
signal-integrity model XC2V250_CS144 (Virtex-II)
part A pins: A3 IO_L01P_0 (io), A4 IO_L03N_0/VRP_0 (io), A5 IO_L94N_0/VREF_0 (io), A6 IO_L96N_0/GCLK5P (io), A7 IO_L96N_1/GCLK3P (io), A8 IO_L95N_1/GCLK1P (io), A9 VCCO_1 (power), A10 IO_L02N_1 (io), A11 VCCO_1 (power), B3 IO_L01N_0 (io), B4 IO_L02P_0 (io), B5 VCCO_0 (power), B6 IO_L95P_0/GCLK6S (io), B7 IO_L96P_1/GCLK2S (io), B8 IO_L95P_1/GCLK0S (io), B10 IO_L02P_1 (io), C3 VCCO_0 (power), C4 IO_L02N_0 (io), C6 IO_L95N_0/GCLK7P (io), C8 IO_L94N_1 (io), C9 IO_L03N_1/VRP_1 (io), C10 IO_L01N_1 (io), C12 VCCO_2 (power), C13 IO_L01N_2 (io), D1 IO_L02N_7/VRP_7 (io), D2 IO_L01P_7 (io), D3 IO_L01N_7 (io), D4 VCCO_7 (power), D5 IO_L03P_0/VRN_0 (io), D6 IO_L94P_0 (io), D7 IO_L96P_0/GCLK4S (io), D8 IO_L94P_1/VREF_1 (io), D9 IO_L03P_1/VRN_1 (io), D10 IO_L01P_1 (io), D11 IO_L01P_2 (io), D12 IO_L02N_2/VRP_2 (io), D13 IO_L02P_2/VRN_2 (io), E2 IO_L03P_7/VREF_7 (io), E3 IO_L03N_7 (io), E4 IO_L02P_7/VRN_7 (io), E10 IO_L03N_2 (io), E11 IO_L03P_2/VREF_2 (io), E13 IO_L93N_2 (io), F1 IO_L94N_7 (io), F2 IO_L93P_7/VREF_7 (io), F3 VCCO_7 (power), F4 IO_L93N_7 (io), F10 VCCO_2 (power), F11 IO_L93P_2/VREF_2 (io), F12 IO_L94N_2 (io), G1 IO_L94P_7 (io), G3 IO_L96N_7 (io), G4 IO_L96P_7 (io), G10 IO_L94P_2 (io), G11 IO_L96N_2 (io), G12 IO_L96N_3 (io), G13 IO_L96P_2 (io), H1 IO_L96N_6 (io), H3 IO_L96P_6 (io), H4 IO_L94N_6 (io), H11 IO_L94N_3 (io), H12 IO_L96P_3 (io), J2 IO_L94P_6 (io), J3 VCCO_6 (power), J10 IO_L03N_3/VREF_3 (io), J12 VCCO_3 (power), J13 IO_L94P_3 (io), K1 IO_L03N_6/VREF_6 (io), K2 IO_L03P_6 (io), K3 IO_L02N_6/VRP_6 (io), K4 IO_L01P_5/CS_B (io), K5 IO_L03P_5/D5/ALT_VRN_5 (io), K6 IO_L94P_5/VREF_5 (io), K7 IO_L96P_4/GCLK0P (io), K8 IO_L94P_4 (io), K9 IO_L03P_4/D3/ALT_VRN_4 (io), K10 IO_L01N_3 (io), K11 IO_L02P_3/VRN_3 (io), K12 IO_L02N_3/VRP_3 (io), K13 IO_L03P_3 (io), L1 IO_L02P_6/VRN_6 (io), L2 IO_L01N_6 (io), L3 IO_L01P_6 (io), L4 IO_L01N_5/RDWR_B (io), L5 IO_L03N_5/D4/ALT_VRP_5 (io), L6 IO_L94N_5 (io), L8 IO_L95N_4/GCLK3S (io), L10 IO_L02N_4/D0 (io), L11 VCCO_4 (power), L12 VCCO_3 (power), L13 IO_L01P_3 (io), M1 VCCO_6 (power), M4 IO_L02P_5/D7 (io), M6 IO_L95P_5/GCLK4P (io), M7 IO_L96P_5/GCLK6P (io), M8 IO_L95P_4/GCLK2P (io), M9 VCCO_4 (power), M10 IO_L02P_4/D1 (io), M11 IO_L01N_4/DOUT (io), N3 VCCO_5 (power), N4 IO_L02N_5/D6 (io), N5 VCCO_5 (power), N6 IO_L95N_5/GCLK5S (io), N7 IO_L96N_5/GCLK7S (io), N8 IO_L96N_4/GCLK1S (io), N9 IO_L94N_4/VREF_4 (io), N10 IO_L03N_4/D2/ALT_VRP_4 (io), N11 IO_L01P_4/INIT_B (io)
part B pins: A1 HSWAP_EN (in), A2 RSVD, A12 VBATT (power), A13 TMS (in), B1 PROG_B (in), B2 RSVD, B9 GND (power), B11 RSVD, B12 TCK (in), B13 VCCAUX (power), C1 TDI (in), C2 VCCAUX (power), C5 GND (power), C7 VCCINT (power), C11 TDO (out), E1 GND (power), E12 GND (power), F13 GND (power), G2 GND (power), H2 VCCINT (power), H10 GND (power), H13 VCCINT (power), J1 GND (power), J4 GND (power), J11 GND (power), L7 VCCINT (power), L9 GND (power), M2 M1 (in), M3 M2 (in), M5 GND (power), M12 PWRDWN_B (in), M13 CCLK (io), N1 VCCAUX (power), N2 M0 (in), N12 DONE (io), N13 VCCAUX (power)

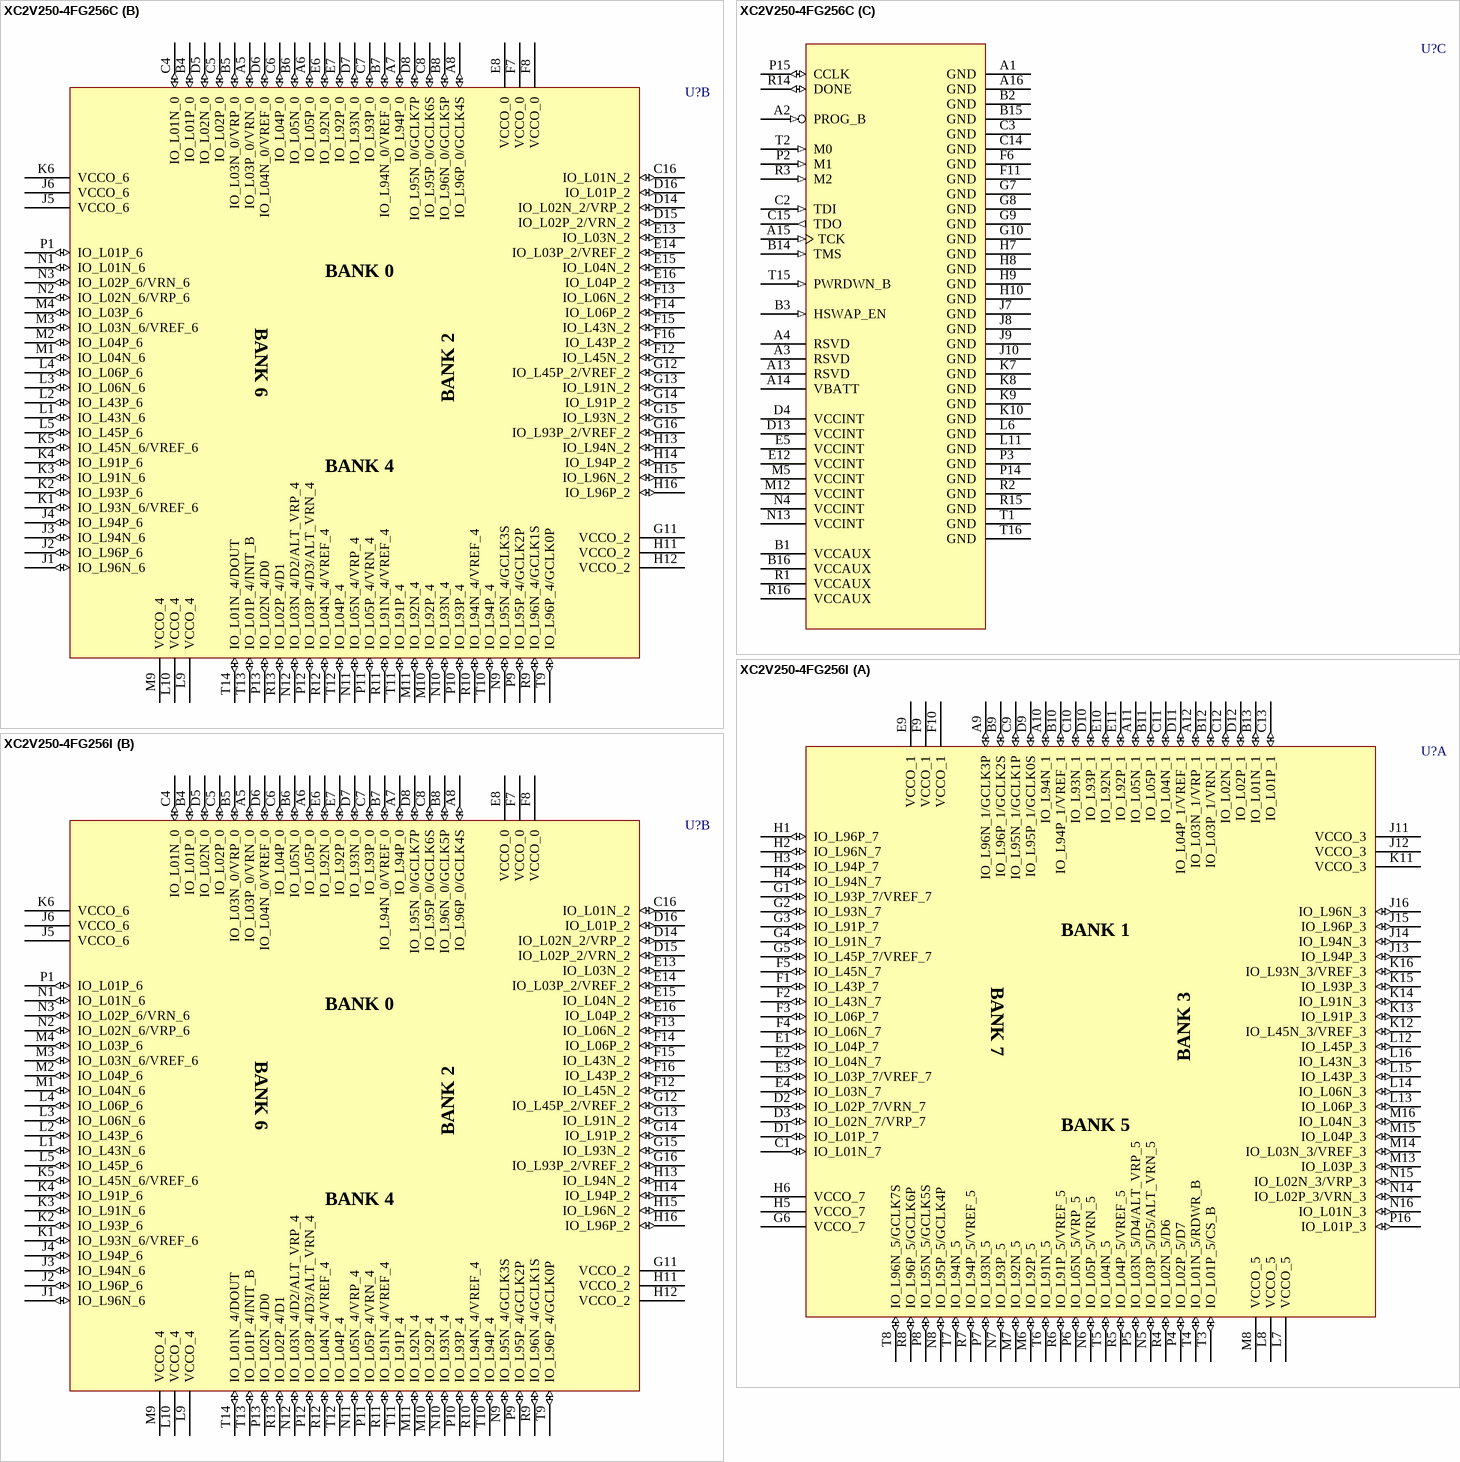
[diagram p14: symbols XC2V250-4FG256C to XC2V250-4FG256I]

## XC2V250-4FG256C
designator U?
Virtex-II 1.5V FPGA, 256-Ball FBGA, Commercial Grade; PackageDocument: ver1.1, Apr-2001; Published: 15-Apr-2002; DatasheetDocument: Mar-2004; PackageReference: FG256; Publisher: Altium Limited; Code_JEDEC: MO-151-AAF-1; Code_IPC: PBGA 17X17 FE256
footprint FG256 (256-Ball Fine Pitch Ball Grid Array (FG256))
3D model XC2V250-FG256 (256-Ball Fine Pitch Ball Grid Array (FG256))
signal-integrity model XC2V250_FG256 (Virtex-II)
part A pins: A9 IO_L96N_1/GCLK3P (io), A10 IO_L94N_1 (io), A11 IO_L05N_1 (io), A12 IO_L03N_1/VRP_1 (io), B9 IO_L96P_1/GCLK2S (io), B10 IO_L94P_1/VREF_1 (io), B11 IO_L05P_1 (io), B12 IO_L03P_1/VRN_1 (io), B13 IO_L01N_1 (io), C1 IO_L01N_7 (io), C9 IO_L95N_1/GCLK1P (io), C10 IO_L93N_1 (io), C11 IO_L04N_1 (io), C12 IO_L02N_1 (io), C13 IO_L01P_1 (io), D1 IO_L01P_7 (io), D2 IO_L02P_7/VRN_7 (io), D3 IO_L02N_7/VRP_7 (io), D9 IO_L95P_1/GCLK0S (io), D10 IO_L93P_1 (io), D11 IO_L04P_1/VREF_1 (io), D12 IO_L02P_1 (io), E1 IO_L04P_7 (io), E2 IO_L04N_7 (io), E3 IO_L03P_7/VREF_7 (io), E4 IO_L03N_7 (io), E9 VCCO_1 (power), E10 IO_L92N_1 (io), E11 IO_L92P_1 (io), F1 IO_L43P_7 (io), F2 IO_L43N_7 (io), F3 IO_L06P_7 (io), F4 IO_L06N_7 (io), F5 IO_L45N_7 (io), F9 VCCO_1 (power), F10 VCCO_1 (power), G1 IO_L93P_7/VREF_7 (io), G2 IO_L93N_7 (io), G3 IO_L91P_7 (io), G4 IO_L91N_7 (io), G5 IO_L45P_7/VREF_7 (io), G6 VCCO_7 (power), H1 IO_L96P_7 (io), H2 IO_L96N_7 (io), H3 IO_L94P_7 (io), H4 IO_L94N_7 (io), H5 VCCO_7 (power), H6 VCCO_7 (power), J11 VCCO_3 (power), J12 VCCO_3 (power), J13 IO_L94P_3 (io), J14 IO_L94N_3 (io), J15 IO_L96P_3 (io), J16 IO_L96N_3 (io), K11 VCCO_3 (power), K12 IO_L45N_3/VREF_3 (io), K13 IO_L91P_3 (io), K14 IO_L91N_3 (io), K15 IO_L93P_3 (io), K16 IO_L93N_3/VREF_3 (io), L7 VCCO_5 (power), L8 VCCO_5 (power), L12 IO_L45P_3 (io), L13 IO_L06P_3 (io), L14 IO_L06N_3 (io), L15 IO_L43P_3 (io), L16 IO_L43N_3 (io), M6 IO_L92P_5 (io), M7 IO_L92N_5 (io), M8 VCCO_5 (power), M13 IO_L03P_3 (io), M14 IO_L03N_3/VREF_3 (io), M15 IO_L04P_3 (io), M16 IO_L04N_3 (io), N5 IO_L03P_5/D5/ALT_VRN_5 (io), N6 IO_L05P_5/VRN_5 (io), N7 IO_L93P_5 (io), N8 IO_L95P_5/GCLK4P (io), N14 IO_L02P_3/VRN_3 (io), N15 IO_L02N_3/VRP_3 (io), N16 IO_L01N_3 (io), P4 IO_L02P_5/D7 (io), P5 IO_L03N_5/D4/ALT_VRP_5 (io), P6 IO_L05N_5/VRP_5 (io), P7 IO_L93N_5 (io), P8 IO_L95N_5/GCLK5S (io), P16 IO_L01P_3 (io), R4 IO_L02N_5/D6 (io), R5 IO_L04P_5/VREF_5 (io), R6 IO_L91P_5/VREF_5 (io), R7 IO_L94P_5/VREF_5 (io), R8 IO_L96P_5/GCLK6P (io), T3 IO_L01P_5/CS_B (io), T4 IO_L01N_5/RDWR_B (io), T5 IO_L04N_5 (io), T6 IO_L91N_5 (io), T7 IO_L94N_5 (io), T8 IO_L96N_5/GCLK7S (io)
part B pins: A5 IO_L03P_0/VRN_0 (io), A6 IO_L05P_0 (io), A7 IO_L94P_0 (io), A8 IO_L96P_0/GCLK4S (io), B4 IO_L01P_0 (io), B5 IO_L03N_0/VRP_0 (io), B6 IO_L05N_0 (io), B7 IO_L94N_0/VREF_0 (io), B8 IO_L96N_0/GCLK5P (io), C4 IO_L01N_0 (io), C5 IO_L02P_0 (io), C6 IO_L04P_0 (io), C7 IO_L93P_0 (io), C8 IO_L95P_0/GCLK6S (io), C16 IO_L01N_2 (io), D5 IO_L02N_0 (io), D6 IO_L04N_0/VREF_0 (io), D7 IO_L93N_0 (io), D8 IO_L95N_0/GCLK7P (io), D14 IO_L02N_2/VRP_2 (io), D15 IO_L02P_2/VRN_2 (io), D16 IO_L01P_2 (io), E6 IO_L92N_0 (io), E7 IO_L92P_0 (io), E8 VCCO_0 (power), E13 IO_L03N_2 (io), E14 IO_L03P_2/VREF_2 (io), E15 IO_L04N_2 (io), E16 IO_L04P_2 (io), F7 VCCO_0 (power), F8 VCCO_0 (power), F12 IO_L45N_2 (io), F13 IO_L06N_2 (io), F14 IO_L06P_2 (io), F15 IO_L43N_2 (io), F16 IO_L43P_2 (io), G11 VCCO_2 (power), G12 IO_L45P_2/VREF_2 (io), G13 IO_L91N_2 (io), G14 IO_L91P_2 (io), G15 IO_L93N_2 (io), G16 IO_L93P_2/VREF_2 (io), H11 VCCO_2 (power), H12 VCCO_2 (power), H13 IO_L94N_2 (io), H14 IO_L94P_2 (io), H15 IO_L96N_2 (io), H16 IO_L96P_2 (io), J1 IO_L96N_6 (io), J2 IO_L96P_6 (io), J3 IO_L94N_6 (io), J4 IO_L94P_6 (io), J5 VCCO_6 (power), J6 VCCO_6 (power), K1 IO_L93N_6/VREF_6 (io), K2 IO_L93P_6 (io), K3 IO_L91N_6 (io), K4 IO_L91P_6 (io), K5 IO_L45N_6/VREF_6 (io), K6 VCCO_6 (power), L1 IO_L43N_6 (io), L2 IO_L43P_6 (io), L3 IO_L06N_6 (io), L4 IO_L06P_6 (io), L5 IO_L45P_6 (io), L9 VCCO_4 (power), L10 VCCO_4 (power), M1 IO_L04N_6 (io), M2 IO_L04P_6 (io), M3 IO_L03N_6/VREF_6 (io), M4 IO_L03P_6 (io), M9 VCCO_4 (power), M10 IO_L92P_4 (io), M11 IO_L92N_4 (io), N1 IO_L01N_6 (io), N2 IO_L02N_6/VRP_6 (io), N3 IO_L02P_6/VRN_6 (io), N9 IO_L95N_4/GCLK3S (io), N10 IO_L93N_4 (io), N11 IO_L05N_4/VRP_4 (io), N12 IO_L03N_4/D2/ALT_VRP_4 (io), P1 IO_L01P_6 (io), P9 IO_L95P_4/GCLK2P (io), P10 IO_L93P_4 (io), P11 IO_L05P_4/VRN_4 (io), P12 IO_L03P_4/D3/ALT_VRN_4 (io), P13 IO_L02N_4/D0 (io), R9 IO_L96N_4/GCLK1S (io), R10 IO_L94N_4/VREF_4 (io), R11 IO_L91N_4/VREF_4 (io), R12 IO_L04N_4/VREF_4 (io), R13 IO_L02P_4/D1 (io), T9 IO_L96P_4/GCLK0P (io), T10 IO_L94P_4 (io), T11 IO_L91P_4 (io), T12 IO_L04P_4 (io), T13 IO_L01P_4/INIT_B (io), T14 IO_L01N_4/DOUT (io)
part C pins: A1 GND (power), A2 PROG_B (in), A3 RSVD, A4 RSVD, A13 RSVD, A14 VBATT (power), A15 TCK (in), A16 GND (power), B1 VCCAUX (power), B2 GND (power), B3 HSWAP_EN (in), B14 TMS (in), B15 GND (power), B16 VCCAUX (power), C2 TDI (in), C3 GND (power), C14 GND (power), C15 TDO (out), D4 VCCINT (power), D13 VCCINT (power), E5 VCCINT (power), E12 VCCINT (power), F6 GND (power), F11 GND (power), G7 GND (power), G8 GND (power), G9 GND (power), G10 GND (power), H7 GND (power), H8 GND (power), H9 GND (power), H10 GND (power), J7 GND (power), J8 GND (power), J9 GND (power), J10 GND (power), K7 GND (power), K8 GND (power), K9 GND (power), K10 GND (power), L6 GND (power), L11 GND (power), M5 VCCINT (power), M12 VCCINT (power), N4 VCCINT (power), N13 VCCINT (power), P2 M1 (in), P3 GND (power), P14 GND (power), P15 CCLK (io), R1 VCCAUX (power), R2 GND (power), R3 M2 (in), R14 DONE (io), R15 GND (power), R16 VCCAUX (power), T1 GND (power), T2 M0 (in), T15 PWRDWN_B (in), T16 GND (power)
part A text: BANK 1; BANK 7; BANK 3; BANK 5
part B text: BANK 0; BANK 6; BANK 2; BANK 4

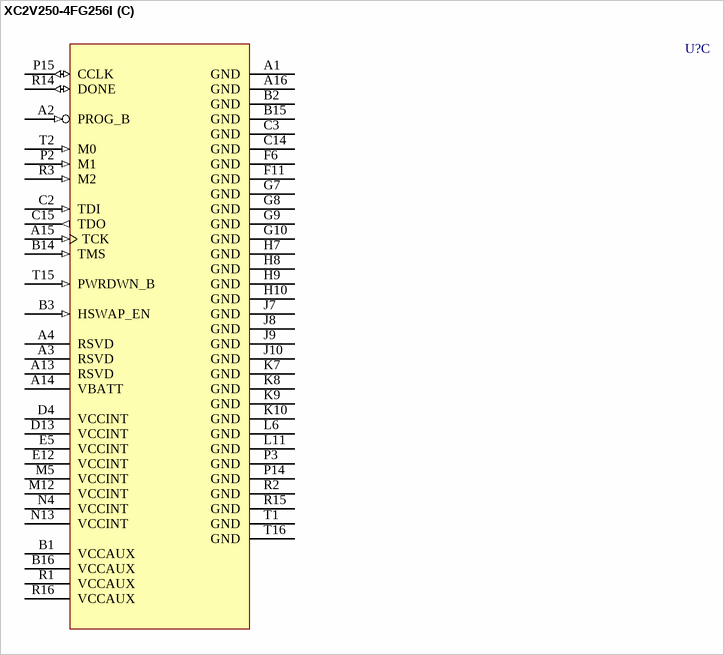
[diagram p15: symbol XC2V250-4FG256I]